# Altium schematic symbol library 常用集成电路.SchLib: 294 symbols (part 2 of 5)
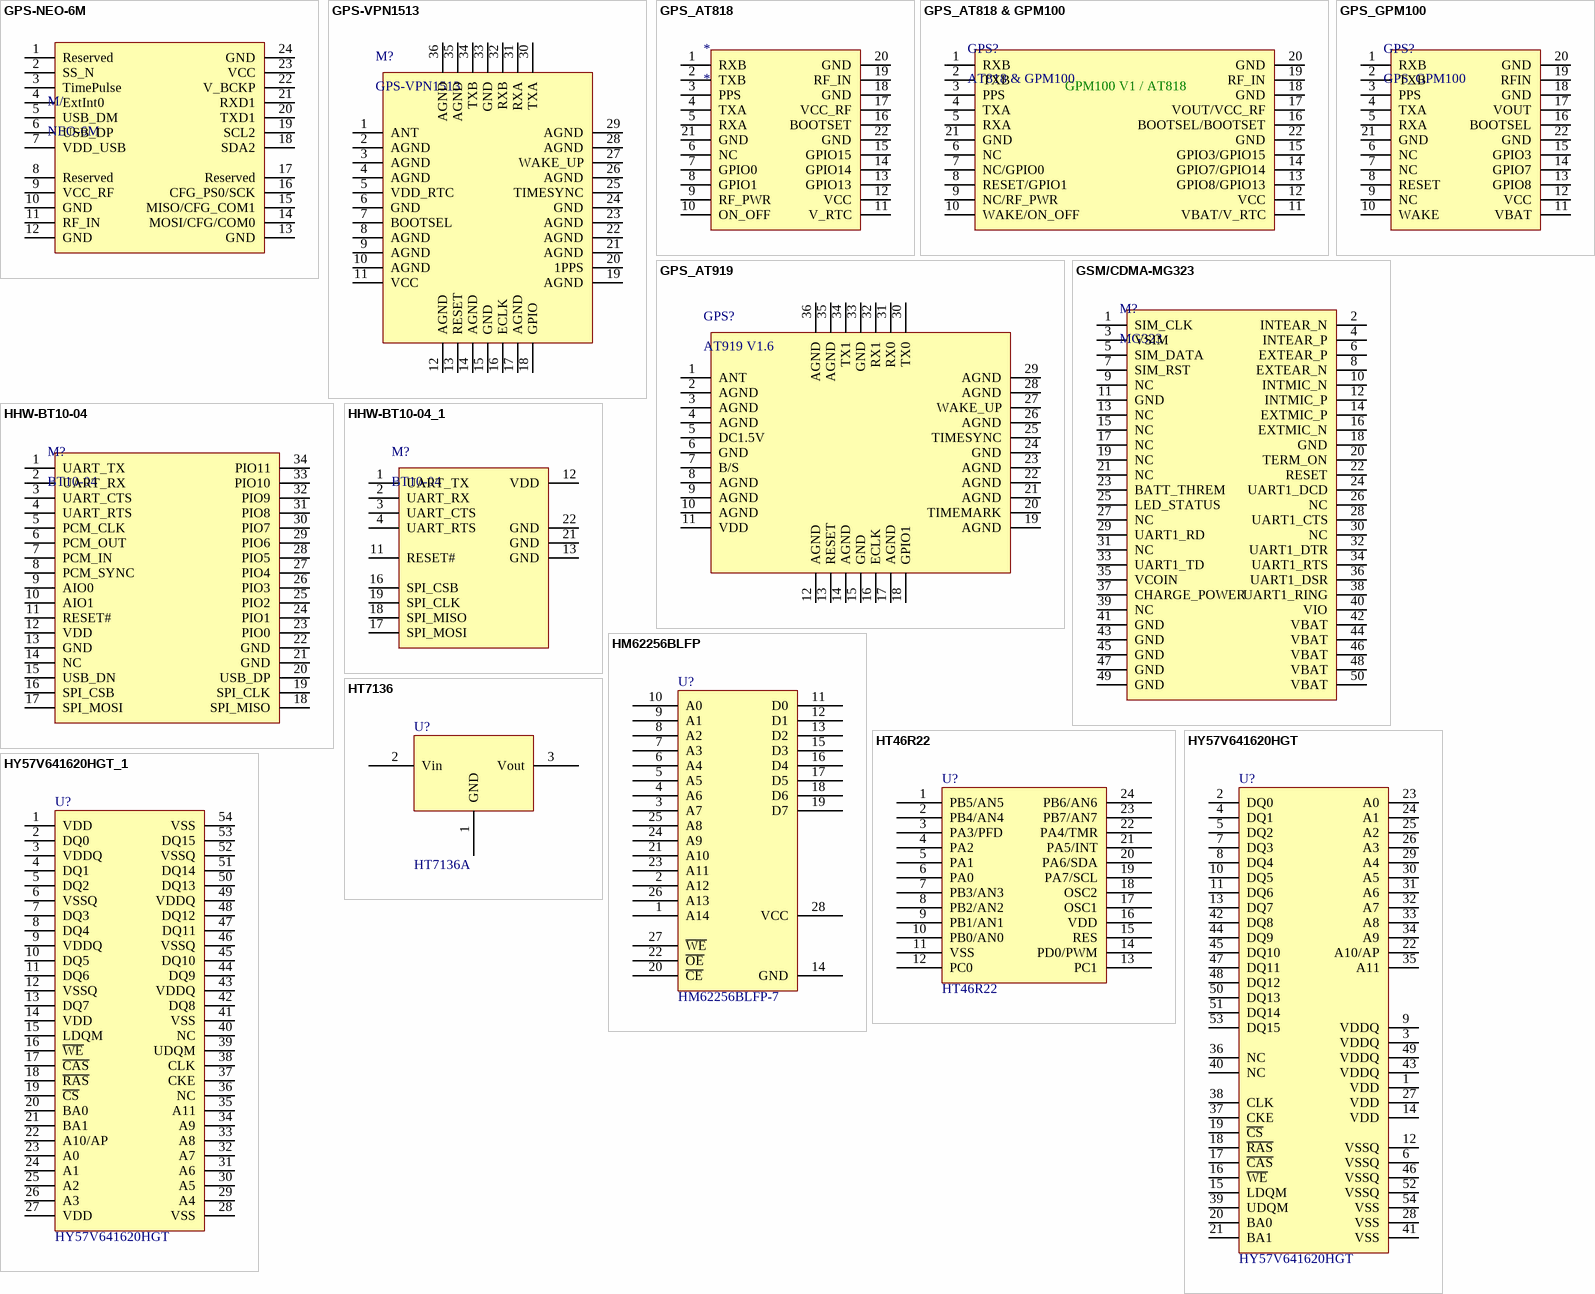
[diagram p39: symbols GPS-NEO-6M to HY57V641620HGT_1]

## HY57V641620HGT
designator U?
footprint SOP80P1176-54AN (Footprint not found)
pins: 1 VDD, 2 DQ0, 3 VDDQ, 4 DQ1, 5 DQ2, 6 VSSQ, 7 DQ3, 8 DQ4, 9 VDDQ, 10 DQ5, 11 DQ6, 12 VSSQ, 13 DQ7, 14 VDD, 15 LDQM, 16 ~{WE}, 17 ~{CAS}, 18 ~{RAS}, 19 ~{CS}, 20 BA0, 21 BA1, 22 A10/AP, 23 A0, 24 A1, 25 A2, 26 A3, 27 VDD, 28 VSS, 29 A4, 30 A5, 31 A6, 32 A7, 33 A8, 34 A9, 35 A11, 36 NC, 37 CKE, 38 CLK, 39 UDQM, 40 NC, 41 VSS, 42 DQ8, 43 VDDQ, 44 DQ9, 45 DQ10, 46 VSSQ, 47 DQ11, 48 DQ12, 49 VDDQ, 50 DQ13, 51 DQ14, 52 VSSQ, 53 DQ15, 54 VSS

## HY57V641620HGT_1
designator U?, comment HY57V641620HGT
footprint SOP80P1176-54AN (Footprint not found)
pins: 1 VDD, 2 DQ0, 3 VDDQ, 4 DQ1, 5 DQ2, 6 VSSQ, 7 DQ3, 8 DQ4, 9 VDDQ, 10 DQ5, 11 DQ6, 12 VSSQ, 13 DQ7, 14 VDD, 15 LDQM, 16 ~{WE}, 17 ~{CAS}, 18 ~{RAS}, 19 ~{CS}, 20 BA0, 21 BA1, 22 A10/AP, 23 A0, 24 A1, 25 A2, 26 A3, 27 VDD, 28 VSS, 29 A4, 30 A5, 31 A6, 32 A7, 33 A8, 34 A9, 35 A11, 36 NC, 37 CKE, 38 CLK, 39 UDQM, 40 NC, 41 VSS, 42 DQ8, 43 VDDQ, 44 DQ9, 45 DQ10, 46 VSSQ, 47 DQ11, 48 DQ12, 49 VDDQ, 50 DQ13, 51 DQ14, 52 VSSQ, 53 DQ15, 54 VSS

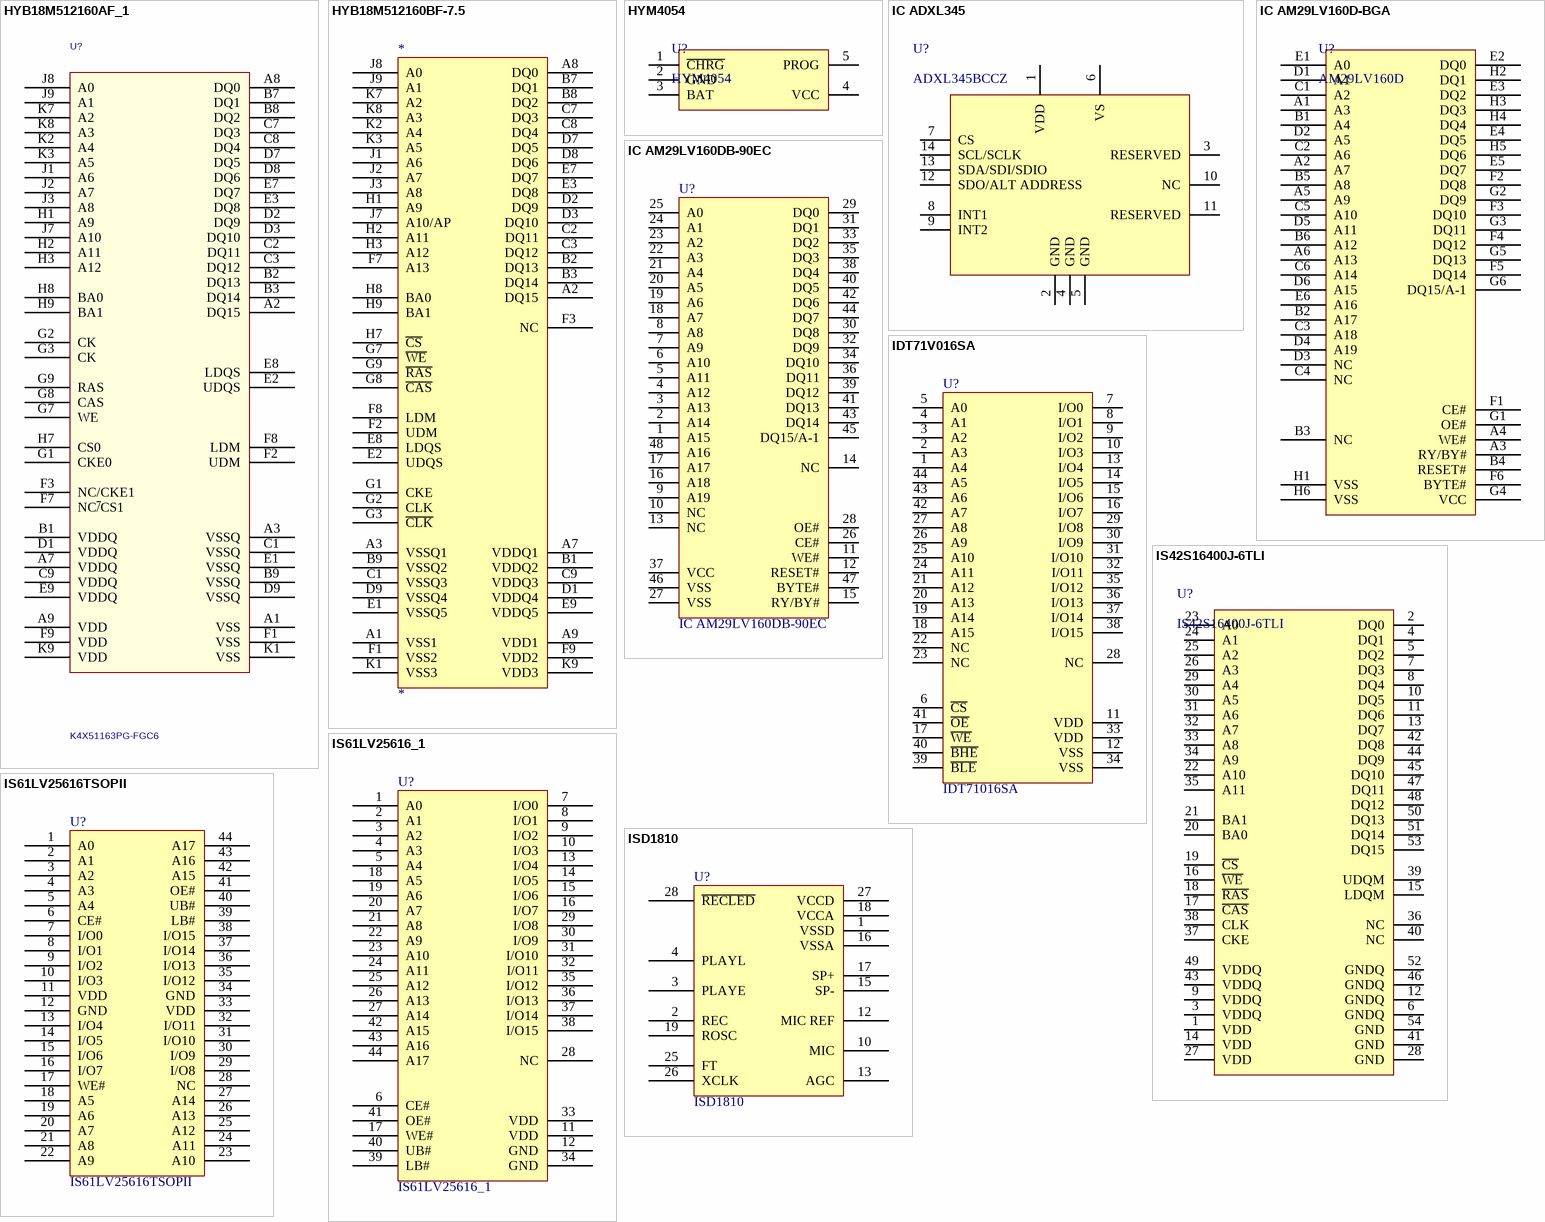
[diagram p8: symbols HYB18M512160AF_1 to ISD1810]

## HYB18M512160AF_1
designator U?, comment K4X51163PG-FGC6
footprint BGA80P11X10-60
pins: A1 VSS, A2 DQ15, A3 VSSQ, A7 VDDQ, A8 DQ0, A9 VDD, B1 VDDQ, B2 DQ13, B3 DQ14, B7 DQ1, B8 DQ2, B9 VSSQ, C1 VSSQ, C2 DQ11, C3 DQ12, C7 DQ3, C8 DQ4, C9 VDDQ, D1 VDDQ, D2 DQ9, D3 DQ10, D7 DQ5, D8 DQ6, D9 VSSQ, E1 VSSQ, E2 UDQS, E3 DQ8, E7 DQ7, E8 LDQS, E9 VDDQ, F1 VSS, F2 UDM, F3 NC/CKE1, F7 NC~{/}CS1, F8 LDM, F9 VDD, G1 CKE0, G2 CK, G3 CK, G7 WE, G8 CAS, G9 RAS, H1 A9, H2 A11, H3 A12, H7 CS0, H8 BA0, H9 BA1, J1 A6, J2 A7, J3 A8, J7 A10, J8 A0, J9 A1, K1 VSS, K2 A4, K3 A5, K7 A2, K8 A3, K9 VDD

## HYB18M512160BF-7.5
designator *
footprint P-VFBGA-60-1
pins: A1 VSS1 (power), A2 DQ15 (power), A3 VSSQ1 (power), A7 VDDQ1 (power), A8 DQ0 (power), A9 VDD1 (power), B1 VDDQ2 (power), B2 DQ13 (power), B3 DQ14 (power), B7 DQ1 (power), B8 DQ2 (power), B9 VSSQ2 (power), C1 VSSQ3 (power), C2 DQ11 (power), C3 DQ12 (power), C7 DQ3 (power), C8 DQ4 (power), C9 VDDQ3 (power), D1 VDDQ4 (power), D2 DQ9 (power), D3 DQ10 (power), D7 DQ5 (power), D8 DQ6 (power), D9 VSSQ4 (power), E1 VSSQ5 (power), E2 UDQS (power), E3 DQ8 (power), E7 DQ7 (power), E8 LDQS (power), E9 VDDQ5 (power), F1 VSS2 (power), F2 UDM (power), F3 NC (power), F7 A13 (power), F8 LDM (power), F9 VDD2 (power), G1 CKE (power), G2 CLK (power), G3 ~{CLK} (power), G7 ~{WE} (power), G8 ~{CAS} (power), G9 ~{RAS} (power), H1 A9 (power), H2 A11 (power), H3 A12 (power), H7 ~{CS} (power), H8 BA0 (power), H9 BA1 (power), J1 A6 (power), J2 A7 (power), J3 A8 (power), J7 A10/AP (power), J8 A0 (power), J9 A1 (power), K1 VSS3 (power), K2 A4 (power), K3 A5 (power), K7 A2 (power), K8 A3 (power), K9 VDD3 (power)

## HYM4054
designator U?
footprint SOT23-5 (SOT-23/SC-74A; 5 Leads; Body 3 x 3 mm, inc. leads (LxW max))
pins: 1 ~{CHRG}, 2 GND, 3 BAT, 4 VCC, 5 PROG

## IC ADXL345
designator U?, comment ADXL345BCCZ
3-Axis, ±2 g/±4 g/±8 g/±16 g  Digital Accelerometer
footprint LGACC-14-1 (Footprint not found)
pins: 1 VDD, 2 GND, 3 RESERVED, 4 GND, 5 GND, 6 VS, 7 CS, 8 INT1, 9 INT2, 10 NC, 11 RESERVED, 12 SDO/ALT ADDRESS, 13 SDA/SDI/SDIO, 14 SCL/SCLK

## IC AM29LV160D-BGA
designator U?, comment AM29LV160D
footprint BGA80P8X9-48
pins: A1 A3, A2 A7, A3 RY/BY#, A4 WE#, A5 A9, A6 A13, B1 A4, B2 A17, B3 NC, B4 RESET#, B5 A8, B6 A12, C1 A2, C2 A6, C3 A18, C4 NC, C5 A10, C6 A14, D1 A1, D2 A5, D3 NC, D4 A19, D5 A11, D6 A15, E1 A0, E2 DQ0, E3 DQ2, E4 DQ5, E5 DQ7, E6 A16, F1 CE#, F2 DQ8, F3 DQ10, F4 DQ12, F5 DQ14, F6 BYTE#, G1 OE#, G2 DQ9, G3 DQ11, G4 VCC, G5 DQ13, G6 DQ15/A-1, H1 VSS, H2 DQ1, H3 DQ3, H4 DQ4, H5 DQ6, H6 VSS

## IC AM29LV160DB-90EC
designator U?
footprint TSSOP50P2000-48AM (Footprint not found)
pins: 1 A15, 2 A14, 3 A13, 4 A12, 5 A11, 6 A10, 7 A9, 8 A8, 9 A19, 10 NC, 11 WE#, 12 RESET#, 13 NC, 14 NC, 15 RY/BY#, 16 A18, 17 A17, 18 A7, 19 A6, 20 A5, 21 A4, 22 A3, 23 A2, 24 A1, 25 A0, 26 CE#, 27 VSS, 28 OE#, 29 DQ0, 30 DQ8, 31 DQ1, 32 DQ9, 33 DQ2, 34 DQ10, 35 DQ3, 36 DQ11, 37 VCC, 38 DQ4, 39 DQ12, 40 DQ5, 41 DQ13, 42 DQ6, 43 DQ14, 44 DQ7, 45 DQ15/A-1, 46 VSS, 47 BYTE#, 48 A16

## IDT71V016SA
designator U?, comment IDT71016SA
footprint SO-G44/P.8
pins: 1 A4, 2 A3, 3 A2, 4 A1, 5 A0, 6 ~{CS}, 7 I/O0, 8 I/O1, 9 I/O2, 10 I/O3, 11 VDD, 12 VSS, 13 I/O4, 14 I/O5, 15 I/O6, 16 I/O7, 17 ~{WE}, 18 A15, 19 A14, 20 A13, 21 A12, 22 NC, 23 NC, 24 A11, 25 A10, 26 A9, 27 A8, 28 NC, 29 I/O8, 30 I/O9, 31 I/O10, 32 I/O11, 33 VDD, 34 VSS, 35 I/O12, 36 I/O13, 37 I/O14, 38 I/O15, 39 ~{BLE}, 40 ~{BHE}, 41 ~{OE}, 42 A7, 43 A6, 44 A5

## IS42S16400J-6TLI
designator U?
64M DRAM
footprint SOP80P1176-54AN (SOP, 54-Leads, Body 22.5x10.16mm, Pitch 0.8mm, IPC Medium Density)
pins: 1 VDD, 2 DQ0, 3 VDDQ, 4 DQ1, 5 DQ2, 6 GNDQ, 7 DQ3, 8 DQ4, 9 VDDQ, 10 DQ5, 11 DQ6, 12 GNDQ, 13 DQ7, 14 VDD, 15 LDQM, 16 ~{WE}, 17 ~{CAS}, 18 ~{RAS}, 19 ~{CS}, 20 BA0, 21 BA1, 22 A10, 23 A0, 24 A1, 25 A2, 26 A3, 27 VDD, 28 GND, 29 A4, 30 A5, 31 A6, 32 A7, 33 A8, 34 A9, 35 A11, 36 NC, 37 CKE, 38 CLK, 39 UDQM, 40 NC, 41 GND, 42 DQ8, 43 VDDQ, 44 DQ9, 45 DQ10, 46 GNDQ, 47 DQ11, 48 DQ12, 49 VDDQ, 50 DQ13, 51 DQ14, 52 GNDQ, 53 DQ15, 54 GND

## IS61LV25616_1
designator U?
256K*16 RAM
footprint SO-G44/P.8
pins: 1 A0, 2 A1, 3 A2, 4 A3, 5 A4, 6 CE#, 7 I/O0, 8 I/O1, 9 I/O2, 10 I/O3, 11 VDD, 12 GND, 13 I/O4, 14 I/O5, 15 I/O6, 16 I/O7, 17 WE#, 18 A5, 19 A6, 20 A7, 21 A8, 22 A9, 23 A10, 24 A11, 25 A12, 26 A13, 27 A14, 28 NC, 29 I/O8, 30 I/O9, 31 I/O10, 32 I/O11, 33 VDD, 34 GND, 35 I/O12, 36 I/O13, 37 I/O14, 38 I/O15, 39 LB#, 40 UB#, 41 OE#, 42 A15, 43 A16, 44 A17

## IS61LV25616TSOPII
designator U?
256K*16 SRAM
footprint SO-G44/P.8
pins: 1 A0, 2 A1, 3 A2, 4 A3, 5 A4, 6 CE#, 7 I/O0, 8 I/O1, 9 I/O2, 10 I/O3, 11 VDD, 12 GND, 13 I/O4, 14 I/O5, 15 I/O6, 16 I/O7, 17 WE#, 18 A5, 19 A6, 20 A7, 21 A8, 22 A9, 23 A10, 24 A11, 25 A12, 26 A13, 27 A14, 28 NC, 29 I/O8, 30 I/O9, 31 I/O10, 32 I/O11, 33 VDD, 34 GND, 35 I/O12, 36 I/O13, 37 I/O14, 38 I/O15, 39 LB#, 40 UB#, 41 OE#, 42 A15, 43 A16, 44 A17

## ISD1810
designator U?
footprint ISD1810 (Footprint not found)
pins: 1 VSSD, 2 REC, 3 PLAYE, 4 PLAYL, 10 MIC, 12 MIC REF, 13 AGC, 15 SP-, 16 VSSA, 17 SP+, 18 VCCA, 19 ROSC, 25 FT, 26 XCLK, 27 VCCD, 28 ~{RECLED}

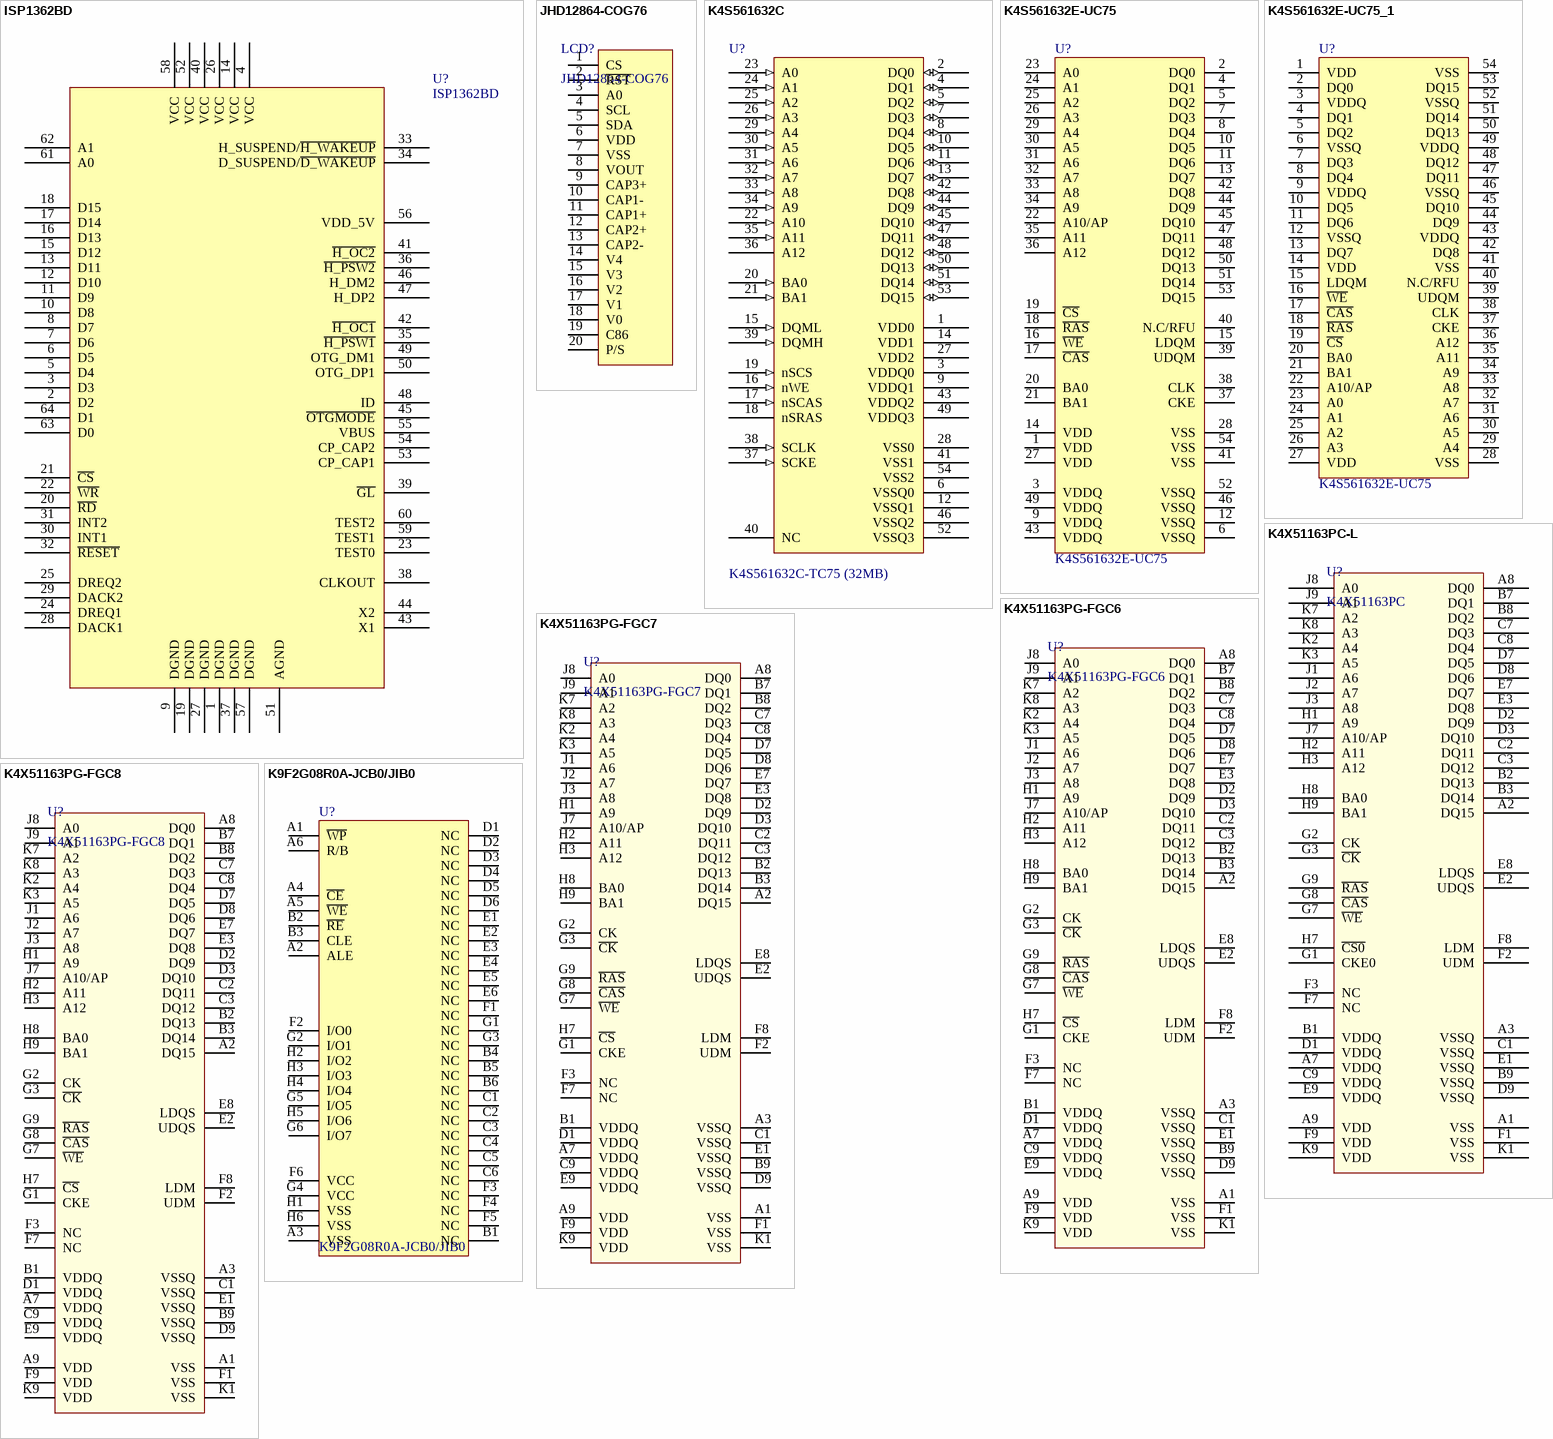
[diagram p9: symbols ISP1362BD to K9F2G08R0A-JCB0/JIB0]

## ISP1362BD
designator U?
footprint TSQFP50P1200X1200-64N (Thin QFP, 64-Leads, Body 10x10mm, Pitch 0.5mm, IPC Medium Density)
pins: 1 DGND, 2 D2, 3 D3, 4 VCC, 5 D4, 6 D5, 7 D6, 8 D7, 9 DGND, 10 D8, 11 D9, 12 D10, 13 D11, 14 VCC, 15 D12, 16 D13, 17 D14, 18 D15, 19 DGND, 20 ~{RD}, 21 ~{CS}, 22 ~{WR}, 23 TEST0, 24 DREQ1, 25 DREQ2, 26 VCC, 27 DGND, 28 DACK1, 29 DACK2, 30 INT1, 31 INT2, 32 ~{RESET}, 33 H_SUSPEND/~{H_WAKEUP}, 34 D_SUSPEND/~{D_WAKEUP}, 35 ~{H_PSW1}, 36 ~{H_PSW2}, 37 DGND, 38 CLKOUT, 39 ~{GL}, 40 VCC, 41 ~{H_OC2}, 42 ~{H_OC1}, 43 X1, 44 X2, 45 ~{OTGMODE}, 46 H_DM2, 47 H_DP2, 48 ID, 49 OTG_DM1, 50 OTG_DP1, 51 AGND, 52 VCC, 53 CP_CAP1, 54 CP_CAP2, 55 VBUS, 56 VDD_5V, 57 DGND, 58 VCC, 59 TEST1, 60 TEST2, 61 A0, 62 A1, 63 D0, 64 D1

## JHD12864-COG76
designator LCD?
footprint FFC/SM0.5-2H20A (Connector; FH12 Series; 20 Position; 0.5mm Spaced Top Contact)
pins: 1 CS, 2 ~{RST}, 3 A0, 4 SCL, 5 SDA, 6 VDD, 7 VSS, 8 VOUT, 9 CAP3+, 10 CAP1-, 11 CAP1+, 12 CAP2+, 13 CAP2-, 14 V4, 15 V3, 16 V2, 17 V1, 18 V0, 19 C86, 20 P/S

## K4S561632C
designator U?, comment K4S561632C-TC75 (32MB)
Samsung SDRAM; Text Field1: 100; Text Field2: 340
footprint SOP80P1176-54AN (SOP, 54-Leads, Body 22.5x10.16mm, Pitch 0.8mm, IPC Medium Density)
pins: 1 VDD0 (power), 2 DQ0 (io), 3 VDDQ0 (power), 4 DQ1 (io), 5 DQ2 (io), 6 VSSQ0 (power), 7 DQ3 (io), 8 DQ4 (io), 9 VDDQ1 (power), 10 DQ5 (io), 11 DQ6 (io), 12 VSSQ1 (power), 13 DQ7 (io), 14 VDD1 (power), 15 DQML (in), 16 nWE (in), 17 nSCAS (in), 18 nSRAS, 19 nSCS (in), 20 BA0 (in), 21 BA1 (in), 22 A10 (in), 23 A0 (in), 24 A1 (in), 25 A2 (in), 26 A3 (in), 27 VDD2 (power), 28 VSS0 (power), 29 A4 (in), 30 A5 (in), 31 A6 (in), 32 A7 (in), 33 A8 (in), 34 A9 (in), 35 A11 (in), 36 A12, 37 SCKE (in), 38 SCLK (in), 39 DQMH (in), 40 NC, 41 VSS1 (power), 42 DQ8 (io), 43 VDDQ2 (power), 44 DQ9 (io), 45 DQ10 (io), 46 VSSQ2 (power), 47 DQ11 (io), 48 DQ12 (io), 49 VDDQ3 (power), 50 DQ13 (io), 51 DQ14 (io), 52 VSSQ3 (power), 53 DQ15 (io), 54 VSS2 (power)

## K4S561632E-UC75
designator U?
footprint SOP80P1176-54AM (SOP, 54-Leads, Body 22.5x10.16mm, Pitch 0.8mm, IPC Low Density)
pins: 1 VDD, 2 DQ0, 3 VDDQ, 4 DQ1, 5 DQ2, 6 VSSQ, 7 DQ3, 8 DQ4, 9 VDDQ, 10 DQ5, 11 DQ6, 12 VSSQ, 13 DQ7, 14 VDD, 15 LDQM, 16 ~{WE}, 17 ~{CAS}, 18 ~{RAS}, 19 ~{CS}, 20 BA0, 21 BA1, 22 A10/AP, 23 A0, 24 A1, 25 A2, 26 A3, 27 VDD, 28 VSS, 29 A4, 30 A5, 31 A6, 32 A7, 33 A8, 34 A9, 35 A11, 36 A12, 37 CKE, 38 CLK, 39 UDQM, 40 N.C/RFU, 41 VSS, 42 DQ8, 43 VDDQ, 44 DQ9, 45 DQ10, 46 VSSQ, 47 DQ11, 48 DQ12, 49 VDDQ, 50 DQ13, 51 DQ14, 52 VSSQ, 53 DQ15, 54 VSS

## K4S561632E-UC75_1
designator U?, comment K4S561632E-UC75
footprint SOP80P1176-54AM (SOP, 54-Leads, Body 22.5x10.16mm, Pitch 0.8mm, IPC Low Density)
pins: 1 VDD, 2 DQ0, 3 VDDQ, 4 DQ1, 5 DQ2, 6 VSSQ, 7 DQ3, 8 DQ4, 9 VDDQ, 10 DQ5, 11 DQ6, 12 VSSQ, 13 DQ7, 14 VDD, 15 LDQM, 16 ~{WE}, 17 ~{CAS}, 18 ~{RAS}, 19 ~{CS}, 20 BA0, 21 BA1, 22 A10/AP, 23 A0, 24 A1, 25 A2, 26 A3, 27 VDD, 28 VSS, 29 A4, 30 A5, 31 A6, 32 A7, 33 A8, 34 A9, 35 A11, 36 A12, 37 CKE, 38 CLK, 39 UDQM, 40 N.C/RFU, 41 VSS, 42 DQ8, 43 VDDQ, 44 DQ9, 45 DQ10, 46 VSSQ, 47 DQ11, 48 DQ12, 49 VDDQ, 50 DQ13, 51 DQ14, 52 VSSQ, 53 DQ15, 54 VSS

## K4X51163PC-L
designator U?, comment K4X51163PC
footprint BGA80P11X10-60
pins: A1 VSS, A2 DQ15, A3 VSSQ, A7 VDDQ, A8 DQ0, A9 VDD, B1 VDDQ, B2 DQ13, B3 DQ14, B7 DQ1, B8 DQ2, B9 VSSQ, C1 VSSQ, C2 DQ11, C3 DQ12, C7 DQ3, C8 DQ4, C9 VDDQ, D1 VDDQ, D2 DQ9, D3 DQ10, D7 DQ5, D8 DQ6, D9 VSSQ, E1 VSSQ, E2 UDQS, E3 DQ8, E7 DQ7, E8 LDQS, E9 VDDQ, F1 VSS, F2 UDM, F3 NC, F7 NC, F8 LDM, F9 VDD, G1 CKE0, G2 CK, G3 ~{CK}, G7 ~{WE}, G8 ~{CAS}, G9 ~{RAS}, H1 A9, H2 A11, H3 A12, H7 ~{CS0}, H8 BA0, H9 BA1, J1 A6, J2 A7, J3 A8, J7 A10/AP, J8 A0, J9 A1, K1 VSS, K2 A4, K3 A5, K7 A2, K8 A3, K9 VDD

## K4X51163PG-FGC6
designator U?
66MHz(CL=3),83MHz(CL=2)
footprint BGA80P8X10-60 (K4X51163PG-FGC6(7)(8))
pins: A1 VSS, A2 DQ15, A3 VSSQ, A7 VDDQ, A8 DQ0, A9 VDD, B1 VDDQ, B2 DQ13, B3 DQ14, B7 DQ1, B8 DQ2, B9 VSSQ, C1 VSSQ, C2 DQ11, C3 DQ12, C7 DQ3, C8 DQ4, C9 VDDQ, D1 VDDQ, D2 DQ9, D3 DQ10, D7 DQ5, D8 DQ6, D9 VSSQ, E1 VSSQ, E2 UDQS, E3 DQ8, E7 DQ7, E8 LDQS, E9 VDDQ, F1 VSS, F2 UDM, F3 NC, F7 NC, F8 LDM, F9 VDD, G1 CKE, G2 CK, G3 ~{CK}, G7 ~{WE}, G8 ~{CAS}, G9 ~{RAS}, H1 A9, H2 A11, H3 A12, H7 ~{CS}, H8 BA0, H9 BA1, J1 A6, J2 A7, J3 A8, J7 A10/AP, J8 A0, J9 A1, K1 VSS, K2 A4, K3 A5, K7 A2, K8 A3, K9 VDD

## K4X51163PG-FGC7
designator U?
185MHz (CL=3)
footprint BGA80P8X10-60 (K4X51163PG-FGC6(7)(8))
pins: A1 VSS, A2 DQ15, A3 VSSQ, A7 VDDQ, A8 DQ0, A9 VDD, B1 VDDQ, B2 DQ13, B3 DQ14, B7 DQ1, B8 DQ2, B9 VSSQ, C1 VSSQ, C2 DQ11, C3 DQ12, C7 DQ3, C8 DQ4, C9 VDDQ, D1 VDDQ, D2 DQ9, D3 DQ10, D7 DQ5, D8 DQ6, D9 VSSQ, E1 VSSQ, E2 UDQS, E3 DQ8, E7 DQ7, E8 LDQS, E9 VDDQ, F1 VSS, F2 UDM, F3 NC, F7 NC, F8 LDM, F9 VDD, G1 CKE, G2 CK, G3 ~{CK}, G7 ~{WE}, G8 ~{CAS}, G9 ~{RAS}, H1 A9, H2 A11, H3 A12, H7 ~{CS}, H8 BA0, H9 BA1, J1 A6, J2 A7, J3 A8, J7 A10/AP, J8 A0, J9 A1, K1 VSS, K2 A4, K3 A5, K7 A2, K8 A3, K9 VDD

## K4X51163PG-FGC8
designator U?
200MHz(CL=3)
footprint BGA80P8X10-60 (K4X51163PG-FGC6(7)(8))
pins: A1 VSS, A2 DQ15, A3 VSSQ, A7 VDDQ, A8 DQ0, A9 VDD, B1 VDDQ, B2 DQ13, B3 DQ14, B7 DQ1, B8 DQ2, B9 VSSQ, C1 VSSQ, C2 DQ11, C3 DQ12, C7 DQ3, C8 DQ4, C9 VDDQ, D1 VDDQ, D2 DQ9, D3 DQ10, D7 DQ5, D8 DQ6, D9 VSSQ, E1 VSSQ, E2 UDQS, E3 DQ8, E7 DQ7, E8 LDQS, E9 VDDQ, F1 VSS, F2 UDM, F3 NC, F7 NC, F8 LDM, F9 VDD, G1 CKE, G2 CK, G3 ~{CK}, G7 ~{WE}, G8 ~{CAS}, G9 ~{RAS}, H1 A9, H2 A11, H3 A12, H7 ~{CS}, H8 BA0, H9 BA1, J1 A6, J2 A7, J3 A8, J7 A10/AP, J8 A0, J9 A1, K1 VSS, K2 A4, K3 A5, K7 A2, K8 A3, K9 VDD

## K9F2G08R0A-JCB0/JIB0
designator U?
footprint BGA80P6x8-L
pins: A1 ~{WP}, A2 ALE, A3 VSS, A4 ~{CE}, A5 ~{WE}, A6 R/B, B1 NC, B2 ~{RE}, B3 CLE, B4 NC, B5 NC, B6 NC, C1 NC, C2 NC, C3 NC, C4 NC, C5 NC, C6 NC, D1 NC, D2 NC, D3 NC, D4 NC, D5 NC, D6 NC, E1 NC, E2 NC, E3 NC, E4 NC, E5 NC, E6 NC, F1 NC, F2 I/O0, F3 NC, F4 NC, F5 NC, F6 VCC, G1 NC, G2 I/O1, G3 NC, G4 VCC, G5 I/O5, G6 I/O7, H1 VSS, H2 I/O2, H3 I/O3, H4 I/O4, H5 I/O6, H6 VSS

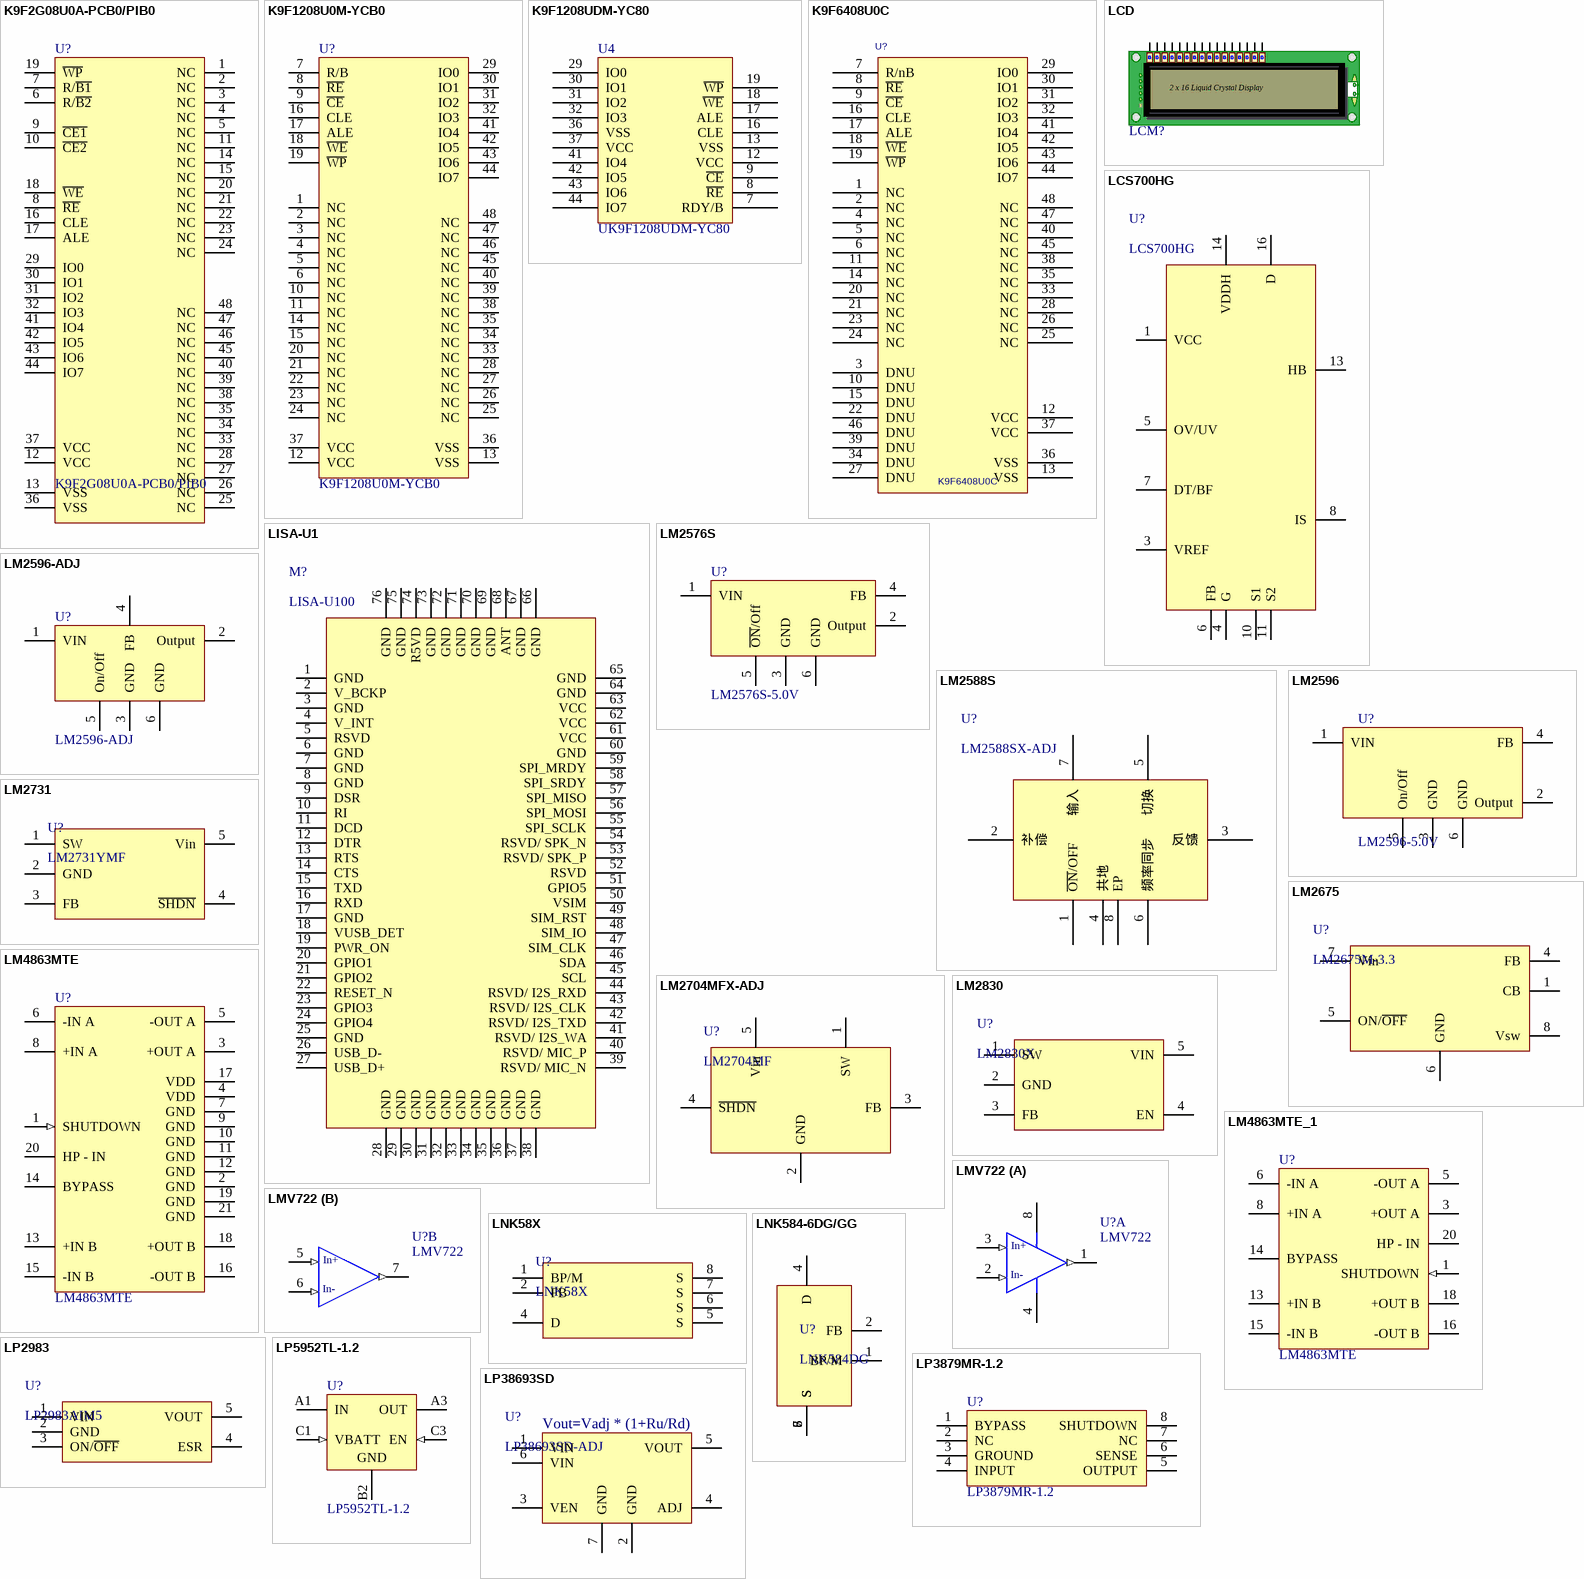
[diagram p10: symbols K9F2G08U0A-PCB0/PIB0 to LP38693SD]

## K9F2G08U0A-PCB0/PIB0
designator U?
footprint TSSOP50P2000-48AM (TSSOP, 48-Leads, Body 12x18.4mm, Pitch 0.5mm, IPC Low Density)
pins: 1 NC, 2 NC, 3 NC, 4 NC, 5 NC, 6 R/~{B2}, 7 R/~{B1}, 8 ~{RE}, 9 ~{CE1}, 10 ~{CE2}, 11 NC, 12 VCC, 13 VSS, 14 NC, 15 NC, 16 CLE, 17 ALE, 18 ~{WE}, 19 ~{WP}, 20 NC, 21 NC, 22 NC, 23 NC, 24 NC, 25 NC, 26 NC, 27 NC, 28 NC, 29 IO0, 30 IO1, 31 IO2, 32 IO3, 33 NC, 34 NC, 35 NC, 36 VSS, 37 VCC, 38 NC, 39 NC, 40 NC, 41 IO4, 42 IO5, 43 IO6, 44 IO7, 45 NC, 46 NC, 47 NC, 48 NC

## K9F1208U0M-YCB0
designator U?
footprint TSSOP50P2000-48AM (TSSOP, 48-Leads, Body 12x18.4mm, Pitch 0.5mm, IPC Low Density)
pins: 1 NC, 2 NC, 3 NC, 4 NC, 5 NC, 6 NC, 7 R/B, 8 ~{RE}, 9 ~{CE}, 10 NC, 11 NC, 12 VCC, 13 VSS, 14 NC, 15 NC, 16 CLE, 17 ALE, 18 ~{WE}, 19 ~{WP}, 20 NC, 21 NC, 22 NC, 23 NC, 24 NC, 25 NC, 26 NC, 27 NC, 28 NC, 29 IO0, 30 IO1, 31 IO2, 32 IO3, 33 NC, 34 NC, 35 NC, 36 VSS, 37 VCC, 38 NC, 39 NC, 40 NC, 41 IO4, 42 IO5, 43 IO6, 44 IO7, 45 NC, 46 NC, 47 NC, 48 NC

## K9F1208UDM-YC80
designator U4, comment UK9F1208UDM-YC80
footprint TSSOP50P2000-48AM (TSSOP, 48-Leads, Body 12x18.4mm, Pitch 0.5mm, IPC Low Density)
pins: 7 RDY/B, 8 ~{RE}, 9 ~{CE}, 12 VCC, 13 VSS, 16 CLE, 17 ALE, 18 ~{WE}, 19 ~{WP}, 29 IO0, 30 IO1, 31 IO2, 32 IO3, 36 VSS, 37 VCC, 41 IO4, 42 IO5, 43 IO6, 44 IO7

## K9F6408U0C
designator U?
NAND Flash
footprint TSSOP50P2000-48AM (TSSOP, 48-Leads, Body 12x18.4mm, Pitch 0.5mm, IPC Low Density)
pins: 1 NC, 2 NC, 3 DNU, 4 NC, 5 NC, 6 NC, 7 R/nB, 8 ~{RE}, 9 ~{CE}, 10 DNU, 11 NC, 12 VCC, 13 VSS, 14 NC, 15 DNU, 16 CLE, 17 ALE, 18 ~{WE}, 19 ~{WP}, 20 NC, 21 NC, 22 DNU, 23 NC, 24 NC, 25 NC, 26 NC, 27 DNU, 28 NC, 29 IO0, 30 IO1, 31 IO2, 32 IO3, 33 NC, 34 DNU, 35 NC, 36 VSS, 37 VCC, 38 NC, 39 DNU, 40 NC, 41 IO4, 42 IO5, 43 IO6, 44 IO7, 45 NC, 46 DNU, 47 NC, 48 NC

## LCD
designator LCM?  (value not drawn)
Liquid Crystal Display; PortComponent: True; Published: 19-Nov-2003; Publisher: Altium Limited
footprint HDR1X16 (Footprint not found)
pins: 1 VCC, 2 GND, 3 VEE, 4 RS, 5 R/W, 6 E, 7 DB0, 8 DB1, 9 DB2, 10 DB3, 11 DB4, 12 DB5, 13 DB6, 14 DB7, 15 LED+, 16 LED-
text: 2 x 16 Liquid Crystal Display

## LCS700HG
designator U?
TFS系列开关电源IC
footprint eSIP-16B (Footprint not found)
pins: 1 VCC, 3 VREF, 4 G, 5 OV/UV, 6 FB, 7 DT/BF, 8 IS, 10 S1, 11 S2, 13 HB, 14 VDDH, 16 D

## LISA-U1
designator M?, comment LISA-U100
ublox LISA-U1系列 3G 模块
footprint LISA-U1 (ublos LISA-U1系列 2G/3G模块)
pins: 1 GND, 2 V_BCKP, 3 GND, 4 V_INT, 5 RSVD, 6 GND, 7 GND, 8 GND, 9 DSR, 10 RI, 11 DCD, 12 DTR, 13 RTS, 14 CTS, 15 TXD, 16 RXD, 17 GND, 18 VUSB_DET, 19 PWR_ON, 20 GPIO1, 21 GPIO2, 22 RESET_N, 23 GPIO3, 24 GPIO4, 25 GND, 26 USB_D-, 27 USB_D+, 28 GND, 29 GND, 30 GND, 31 GND, 32 GND, 33 GND, 34 GND, 35 GND, 36 GND, 37 GND, 38 GND, 39 RSVD/ MIC_N, 40 RSVD/ MIC_P, 41 RSVD/ I2S_WA, 42 RSVD/ I2S_TXD, 43 RSVD/ I2S_CLK, 44 RSVD/ I2S_RXD, 45 SCL, 46 SDA, 47 SIM_CLK, 48 SIM_IO, 49 SIM_RST, 50 VSIM, 51 GPIO5, 52 RSVD, 53 RSVD/ SPK_P, 54 RSVD/ SPK_N, 55 SPI_SCLK, 56 SPI_MOSI, 57 SPI_MISO, 58 SPI_SRDY, 59 SPI_MRDY, 60 GND, 61 VCC, 62 VCC, 63 VCC, 64 GND, 65 GND, 66 GND, 67 GND, 68 ANT, 69 GND, 70 GND, 71 GND, 72 GND, 73 GND, 74 R5VD, 75 GND, 76 GND

## LM2576S
designator U?, comment LM2576S-5.0V
45V Input
footprint TS5B (D2-PAK; 5 Leads; Body 14.4 (inc. leads) x 10.4 mm (LxW max))
footprint TO-263-5 (TO-263封装稳压集成电路)
pins: 1 VIN, 2 Output, 3 GND, 4 FB, 5 ~{ON}/Off, 6 GND

## LM2588S
designator U?, comment LM2588SX-ADJ
带有关断的开关式5A稳压器
footprint TO263-7 (Footprint not found)
pins: 1 ~{ON}/OFF, 2 补偿, 3 反馈, 4 共地, 5 切换, 6 频率同步, 7 输入, 8 EP

## LM2596
designator U?, comment LM2596-5.0V
3A降压稳压器
footprint TS5B (D2-PAK; 5 Leads; Body 14.4 (inc. leads) x 10.4 mm (LxW max))
footprint TO263-5 (TO-263封装稳压集成电路)
pins: 1 VIN, 2 Output, 3 GND, 4 FB, 5 On/Off, 6 GND

## LM2596-ADJ
designator U?
footprint TS5B (D2-PAK; 5 Leads; Body 14.4 (inc. leads) x 10.4 mm (LxW max))
footprint TO263-5 (TO-263封装稳压集成电路)
pins: 1 VIN, 2 Output, 3 GND, 4 FB, 5 On/Off, 6 GND

## LM2675
designator U?, comment LM2675M-3.3
DC/DC稳压IC
footprint SOIC127P600-8AN (SOIC, 8-Leads, Body 4.9x3.9mm, Pitch 1.27mm, IPC Medium Density)
pins: 1 CB, 2 NC hidden, 3 NC hidden, 4 FB, 5 ON/~{OFF}, 6 GND, 7 Vin, 8 Vsw

## LM2704MFX-ADJ
designator U?, comment LM2704MF
TFT LCD High circuit.
footprint SOT23-5 (SOT-23/SC-74A; 5 Leads; Body 3 x 3 mm, inc. leads (LxW max))
pins: 1 SW (power), 2 GND (power), 3 FB (power), 4 ~{SHDN} (power), 5 Vin (power)

## LM2731
designator U?, comment LM2731YMF
升压集成电路
footprint SOT23-5 (SOT-23/SC-74A; 5 Leads; Body 3 x 3 mm, inc. leads (LxW max))
pins: 1 SW "裸焊盘", 2 GND "裸焊盘", 3 FB "裸焊盘", 4 ~{SHDN} "裸焊盘", 5 Vin "裸焊盘"

## LM2830
designator U?, comment LM2830X
AEC-Q100 Grade LM2830 High Frequency 1.0A Load - Step-Down DC-DC Regulator
footprint SOT23-5 (SOT-23/SC-74A; 5 Leads; Body 3 x 3 mm, inc. leads (LxW max))
pins: 1 SW, 2 GND, 3 FB, 4 EN, 5 VIN

## LM4863MTE
designator U?
Audio AMP
footprint TSOP65P640-20BNP (TSOP, 20-Leads, Body 6.5x4.4mm, Pitch 0.65mm, IPC Medium Density)
pins: 1 SHUTDOWN (in), 2 GND (power), 3 +OUT A (power), 4 VDD (power), 5 -OUT A (power), 6 -IN A (power), 7 GND (power), 8 +IN A (power), 9 GND (power), 10 GND (power), 11 GND (power), 12 GND (power), 13 +IN B (power), 14 BYPASS (power), 15 -IN B (power), 16 -OUT B (power), 17 VDD (power), 18 +OUT B (power), 19 GND (power), 20 HP - IN (power), 21 GND (power)

## LM4863MTE_1
designator U?, comment LM4863MTE
Audio AMP
footprint TSOP65P640-20BNP (TSOP, 20-Leads, Body 6.5x4.4mm, Pitch 0.65mm, IPC Medium Density)
pins: 1 SHUTDOWN (in), 2 GND (power) hidden to GND, 3 +OUT A (power), 4 5V (power) hidden to 5V, 5 -OUT A (power), 6 -IN A (power), 7 GND (power) hidden to GND, 8 +IN A (power), 9 GND (power) hidden to GND, 10 GND (power) hidden to GND, 11 GND (power) hidden to GND, 12 GND (power) hidden to GND, 13 +IN B (power), 14 BYPASS (power), 15 -IN B (power), 16 -OUT B (power), 17 5V (power) hidden to 5V, 18 +OUT B (power), 19 GND (power) hidden to GND, 20 HP - IN (power), 21 GND (power) hidden to GND

## LMV722
designator U?
footprint D008_N (8-Pin Small Outline Integrated Circuit 1.27 mm Pitch, IPC Medium Density)
footprint TSOP65P490-8AN (TSOP, 8-Leads, Body 3x3mm, Pitch 0.65mm, IPC Medium Density)
part A pins: 1 OUT A (out), 2 -IN A (in), 3 +IN A (in), 4 V-, 8 V+ (power)
part B pins: 5 +IN B (in), 6 -IN B (in), 7 OUT B (out)
part A text: In+; In-
part B text: In+; In-

## LNK58X
designator U?
开关电源IC
footprint SO-8C
pins: 1 BP/M, 2 FB, 4 D, 5 S, 6 S, 7 S, 8 S

## LNK584-6DG/GG
designator U?, comment LNK584DG
LinkZero-Ax powerint 系列开关电源IC
footprint SO-8C (Footprint not found)
footprint SMD-8C (Footprint not found)
pins: 1 BP/M, 2 FB, 4 D, 5 S, 6 S, 7 S, 8 S

## LP2983
designator U?, comment LP2983AIM5
1.8-5.5V LDO稳压器
footprint SOT23-5 (SOT-23/SC-74A; 5 Leads; Body 3 x 3 mm, inc. leads (LxW max))
pins: 1 VIN, 2 GND, 3 ON/~{OFF}, 4 ESR, 5 VOUT

## LP3879MR-1.2
designator U?
1.2V LDO
footprint SOP127P636-8P (SOP, 8-Leads, Body 6x4.7mm, Pitch 1.27mm, IPC Medium Density)
pins: 1 BYPASS, 2 NC, 3 GROUND, 4 INPUT, 5 OUTPUT, 6 SENSE, 7 NC, 8 SHUTDOWN, 9 GND hidden to GND

## LP5952TL-1.2
designator U?
350mA Dual Rail Linear Regulator; Manufacturer: National Semiconductor; CompType: LDO IC; PackageTopMarking: XV*I 7; Published: 27-Nov-2008; DatasheetVersion: Jun-2008; PackageVersion: revC, Feb-2005; PackageReference: TLA05Z1A; Publisher: Altium Limited; PackageDescription: Thin Micro SMD, 5 Bump (Large), 0.5mm Pitch; PartNumber: LP5952TL-1.2; RoHS: Y; PinCount: 5; DigiKeyPartNumber: LP5952TL-1.2CT-ND; ComponentLink1Description: LP5952 Datasheet; ComponentLink1URL: http://www.national.com/ds/LP/LP5952.pdf; ComponentLink2Description: LP5952 Web Page; ComponentLink2URL: http://www.national.com/pf/LP/LP5952.html; ComponentLink3Description: TLA05Z1A Package Page; ComponentLink3URL: http://www.national.com/packaging/folders/tla05z1a.html
footprint MF05A_N (Footprint not found)
pins: A1 IN (power), A3 OUT (power), B2 GND (power), C1 VBATT (in), C3 EN (in)

## LP38693SD
designator U?, comment LP38693SD-ADJ
具有可调输出的LP38691-ADJ，LP38693-ADJ  500mA 低压降CMOS 线性稳压器
footprint QFN95P3X3-6 (Footprint not found)
pins: 1 VIN, 2 GND, 3 VEN, 4 ADJ, 5 VOUT, 6 VIN, 7 GND
text: Vout=Vadj * (1+Ru/Rd)

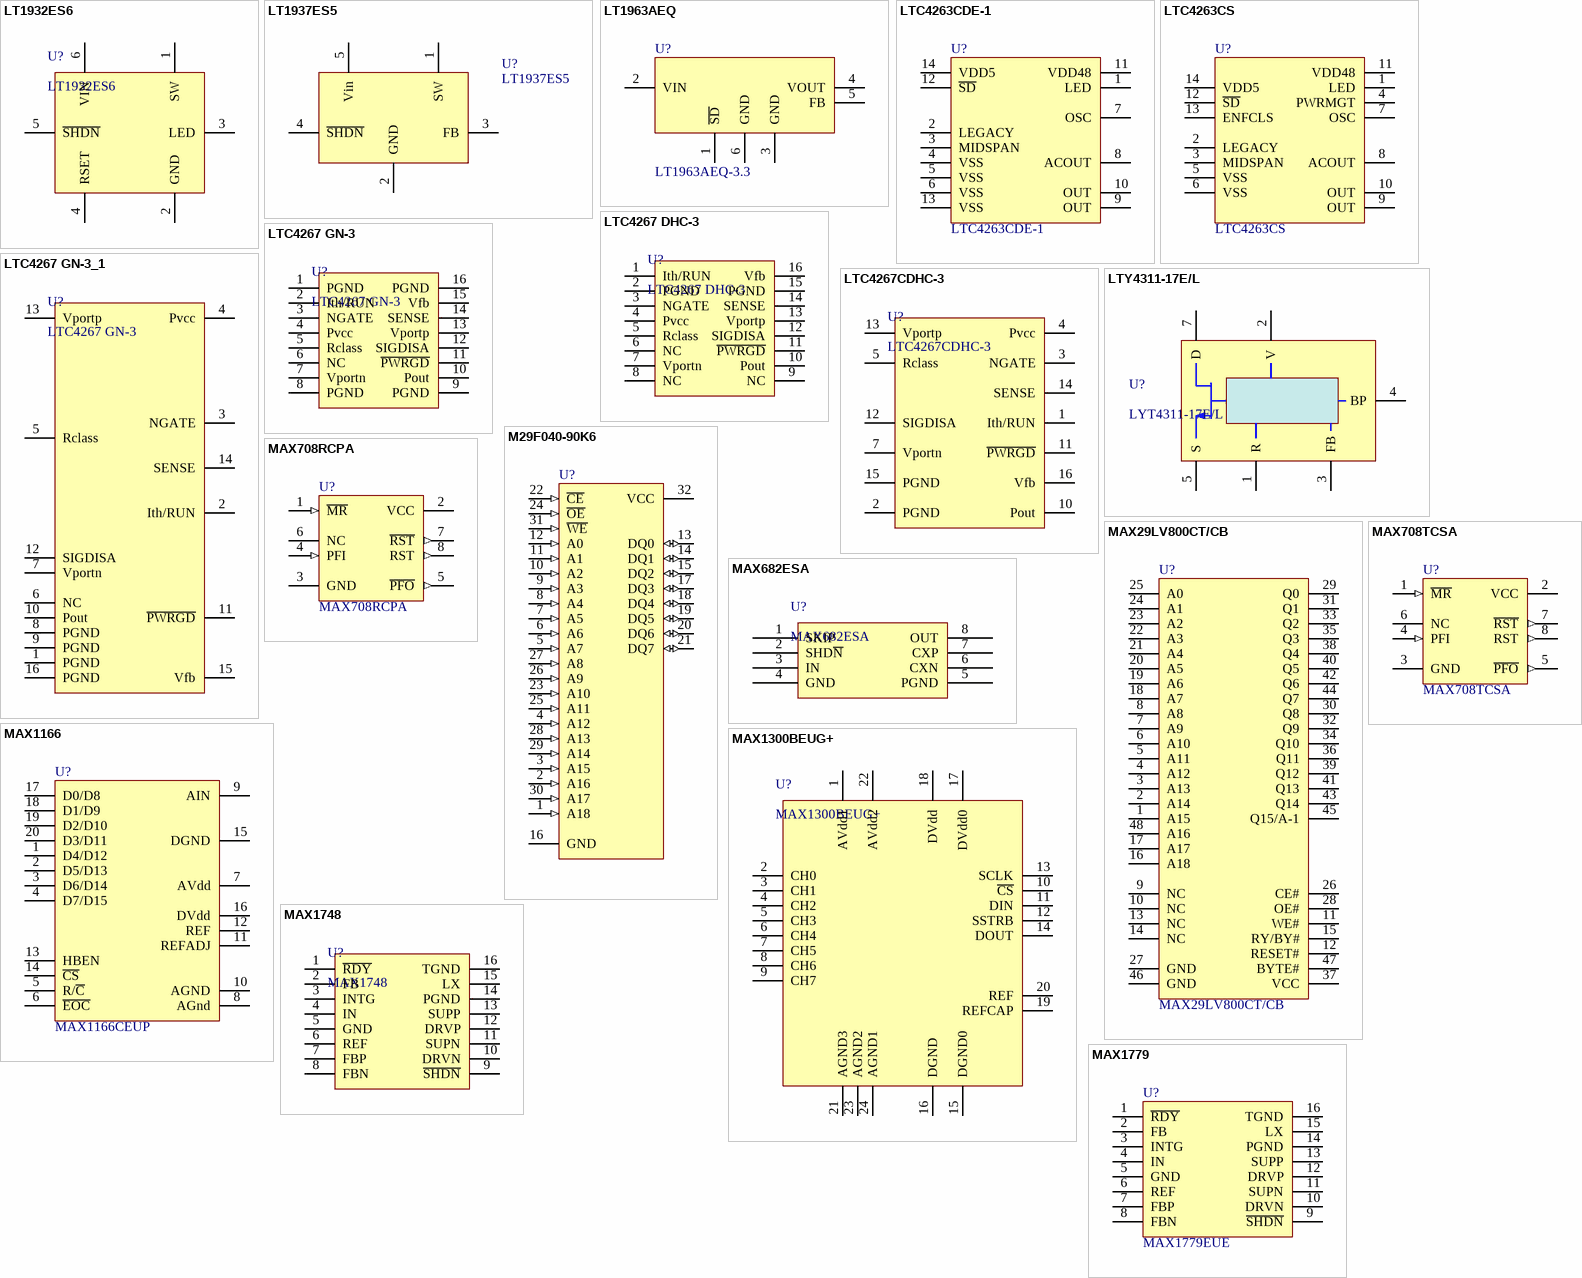
[diagram p11: symbols LT1932ES6 to MAX1779]

## LT1932ES6
designator U?
TFT液晶屏升压IC
footprint SOT23-6 (SOT-457/SC-74; 6 Leads; Body 3 x 3 mm, inc. leads (LxW max))
pins: 1 SW (power), 2 GND (power), 3 LED (power), 4 RSET (power), 5 ~{SHDN} (power), 6 VIN (power)

## LT1937ES5
designator U?
TFT升压IC
footprint SOT23-5AN (SOT23, 5-Leads, Body 2.9x1.6mm, Pitch 0.95mm, Lead Span 2.8mm, IPC Medium Density)
pins: 1 SW (power), 2 GND (power), 3 FB (power), 4 ~{SHDN} (power), 5 Vin (power)

## LT1963AEQ
designator U?, comment LT1963AEQ-3.3
footprint TS5B (D2-PAK; 5 Leads; Body 14.4 (inc. leads) x 10.4 mm (LxW max))
pins: 1 ~{SD} (power), 2 VIN (power), 3 GND (power), 4 VOUT (power), 5 FB (power), 6 GND (power)

## LTC4263CDE-1
designator U?
PSE供电IC
footprint DFN050-14
pins: 1 LED, 2 LEGACY, 3 MIDSPAN, 4 VSS, 5 VSS, 6 VSS, 7 OSC, 8 ACOUT, 9 OUT, 10 OUT, 11 VDD48, 12 ~{SD}, 13 VSS, 14 VDD5, 15 GND hidden to GND

## LTC4263CS
designator U?
PSE供电IC
footprint SO-G14/Y2.2
footprint DFN050-14
pins: 1 LED, 2 LEGACY, 3 MIDSPAN, 4 PWRMGT, 5 VSS, 6 VSS, 7 OSC, 8 ACOUT, 9 OUT, 10 OUT, 11 VDD48, 12 ~{SD}, 13 ENFCLS, 14 VDD5

## LTC4267 DHC-3
designator U?
footprint DFN50P5x3-16
pins: 1 Ith/RUN, 2 PGND, 3 NGATE, 4 Pvcc, 5 Rclass, 6 NC, 7 Vportn, 8 NC, 9 NC, 10 Pout, 11 ~{PWRGD}, 12 SIGDISA, 13 Vportp, 14 SENSE, 15 PGND, 16 Vfb

## LTC4267 GN-3
designator U?
footprint SSOP25P6x5-16 (LTC4267 GN - 16)
pins: 1 PGND, 2 Ith/RUN, 3 NGATE, 4 Pvcc, 5 Rclass, 6 NC, 7 Vportn, 8 PGND, 9 PGND, 10 Pout, 11 ~{PWRGD}, 12 SIGDISA, 13 Vportp, 14 SENSE, 15 Vfb, 16 PGND

## LTC4267 GN-3_1
designator U?, comment LTC4267 GN-3
footprint SSOP25P6x5-16 (LTC4267 GN - 16)
pins: 1 PGND, 2 Ith/RUN, 3 NGATE, 4 Pvcc, 5 Rclass, 6 NC, 7 Vportn, 8 PGND, 9 PGND, 10 Pout, 11 ~{PWRGD}, 12 SIGDISA, 13 Vportp, 14 SENSE, 15 Vfb, 16 PGND

## LTC4267CDHC-3
designator U?
footprint DFN50P5x3-16 (Footprint not found)
pins: 1 Ith/RUN, 2 PGND, 3 NGATE, 4 Pvcc, 5 Rclass, 6 NC hidden, 7 Vportn, 8 NC hidden, 9 NC hidden, 10 Pout, 11 ~{PWRGD}, 12 SIGDISA, 13 Vportp, 14 SENSE, 15 PGND, 16 Vfb

## LTY4311-17E/L
designator U?, comment LYT4311-17E/L
85-132VAC LYTSwitch
footprint eSIP-7C (TOP264-271 封装)
footprint eSIP-7F (Footprint not found)
pins: 1 R, 2 V, 3 FB, 4 BP, 5 S, 7 D

## M29F040-90K6
designator U?
4 Mbit (512Kb x8, Block Erase) Single Supply Flash Memory; Published: 24-Aug-2001; LatestRevisionDate: 06-Jun-2005; LatestRevisionNote: Stylized 3D Model Added.; DatasheetVersion: Nov-1999; PackageVersion: Jun-1998; PackageReference: PLCC32; Publisher: Altium Limited; PackageDescription: Leaded Chip Carrier; 32 Leads; Body 11.5 x 14 mm; Code_JEDEC: MS-016-AE; Code_IPC: PLCC/R-32; ComponentLink1Description: Manufacturer Link; ComponentLink1URL: http://www.st.com/
footprint PLCC32 (Leaded Chip Carrier; 32 Leads; Body 11.5 x 14 mm)
3D model M29F040-PLCC32 (Leaded Chip Carrier; 32 Leads; Body 11.5 x 14 mm)
pins: 1 A18 (in), 2 A16 (in), 3 A15 (in), 4 A12 (in), 5 A7 (in), 6 A6 (in), 7 A5 (in), 8 A4 (in), 9 A3 (in), 10 A2 (in), 11 A1 (in), 12 A0 (in), 13 DQ0 (io), 14 DQ1 (io), 15 DQ2 (io), 16 GND (power), 17 DQ3 (io), 18 DQ4 (io), 19 DQ5 (io), 20 DQ6 (io), 21 DQ7 (io), 22 ~{CE} (in), 23 A10 (in), 24 ~{OE} (in), 25 A11 (in), 26 A9 (in), 27 A8 (in), 28 A13 (in), 29 A14 (in), 30 A17 (in), 31 ~{WE} (in), 32 VCC (power)

## MAX29LV800CT/CB
designator U?
Flash Memory
footprint TSSOP50P2000-48AN (TSSOP, 48-Leads, Body 12x18.4mm, Pitch 0.5mm, IPC Medium Density)
pins: 1 A15, 2 A14, 3 A13, 4 A12, 5 A11, 6 A10, 7 A9, 8 A8, 9 NC, 10 NC, 11 WE#, 12 RESET#, 13 NC, 14 NC, 15 RY/BY#, 16 A18, 17 A17, 18 A7, 19 A6, 20 A5, 21 A4, 22 A3, 23 A2, 24 A1, 25 A0, 26 CE#, 27 GND, 28 OE#, 29 Q0, 30 Q8, 31 Q1, 32 Q9, 33 Q2, 34 Q10, 35 Q3, 36 Q11, 37 VCC, 38 Q4, 39 Q12, 40 Q5, 41 Q13, 42 Q6, 43 Q14, 44 Q7, 45 Q15/A-1, 46 GND, 47 BYTE#, 48 A16

## MAX682ESA
designator U?
MAX682ESA, MAX683ESA
footprint SOP65P640-8L (SOP, 8-Leads, Body 3x4.4mm, Pitch 0.65mm, IPC High Density)
pins: 1 SKIP, 2 SHD~{N}, 3 IN, 4 GND, 5 PGND, 6 CXN, 7 CXP, 8 OUT

## MAX708RCPA
designator U?
+3V Voltage Monitoring, Low-Cost, 礟 Supervisory Circuit; Published: 16-Jan-2001; LatestRevisionDate: 06-Jun-2005; LatestRevisionNote: Stylized 3D Model Added.; DatasheetVersion: Sep-1995; PackageVersion: RevB, 21-0043; PackageReference: PA8; Publisher: Altium Limited; PackageDescription: DIP; 8 Leads; Row Spacing 7.62 mm; Pitch 2.54 mm; Code_JEDEC: MS-001-AB; ComponentLink1Description: Manufacturer Link; ComponentLink1URL: http://www.maxim-ic.com/; ComponentLink2Description: Datasheet; ComponentLink2URL: http://pdfserv.maxim-ic.com/en/ds/MAX706P-MAX708T.pdf
footprint PA8 (DIP; 8 Leads; Row Spacing 7.62 mm; Pitch 2.54 mm)
3D model PA8 (DIP; 8 Leads; Row Spacing 7.62 mm; Pitch 2.54 mm)
pins: 1 ~{MR} (in), 2 VCC (power), 3 GND (power), 4 PFI (in), 5 ~{PFO} (out), 6 NC, 7 ~{RST} (out), 8 RST (out)

## MAX708TCSA
designator U?
+3V Voltage Monitoring, Low-Cost, 礟 Supervisory Circuit; Published: 16-Jan-2001; LatestRevisionDate: 13-Apr-2006; LatestRevisionNote: IPC-7351 Footprint Added.; DatasheetVersion: Sep-1995; PackageReference: NSO8; Publisher: Altium Limited; PackageDescription: 8-Pin Small Outline Integrated Circuit 1.27 mm Pitch; Code_JEDEC: MS-012-AA; Code_IPC: SOIC127P600-8; ComponentLink1Description: Manufacturer Link; ComponentLink1URL: http://www.maxim-ic.com/; ComponentLink2Description: Datasheet; ComponentLink2URL: http://pdfserv.maxim-ic.com/en/ds/MAX706P-MAX708T.pdf
footprint NSO8_N (SOIC, 8-Leads, Body 4.9x3.9mm, Pitch 1.27mm, IPC Medium Density)
footprint NSO8_L (SOIC, 8-Leads, Body 4.9x3.9mm, Pitch 1.27mm, IPC High Density)
3D model NSO8 (8-Pin Small Outline Integrated Circuit 1.27 mm Pitch)
pins: 1 ~{MR} (in), 2 VCC (power), 3 GND (power), 4 PFI (in), 5 ~{PFO} (out), 6 NC, 7 ~{RST} (out), 8 RST (out)

## MAX1166
designator U?, comment MAX1166CEUP
16位ADC
footprint TSOP65P640-20AM (TSOP, 20-Leads, Body 6.5x4.4mm, Pitch 0.65mm, IPC Low Density)
footprint TSOP65P640-20BM (TSOP, 20-Leads, Body 6.5x4.4mm, Pitch 0.65mm, IPC Low Density)
pins: 1 D4/D12, 2 D5/D13, 3 D6/D14, 4 D7/D15, 5 R/~{C}, 6 ~{EOC}, 7 AVdd, 8 AGnd, 9 AIN, 10 AGND, 11 REFADJ, 12 REF, 13 HBEN, 14 ~{CS}, 15 DGND, 16 DVdd, 17 D0/D8, 18 D1/D9, 19 D2/D10, 20 D3/D11

## MAX1300BEUG+
designator U?
8通道16位ADC
footprint TSOP65P640-24AN (TSOP, 24-Leads, Body 7.8x4.4mm, Pitch 0.65mm, IPC Medium Density)
footprint TSOP65P640-24AM (TSOP, 24-Leads, Body 7.8x4.4mm, Pitch 0.65mm, IPC Low Density)
pins: 1 AVdd1, 2 CH0, 3 CH1, 4 CH2, 5 CH3, 6 CH4, 7 CH5, 8 CH6, 9 CH7, 10 ~{CS}, 11 DIN, 12 SSTRB, 13 SCLK, 14 DOUT, 15 DGND0, 16 DGND, 17 DVdd0, 18 DVdd, 19 REFCAP, 20 REF, 21 AGND3, 22 AVdd2, 23 AGND2, 24 AGND1

## MAX1748
designator U?
Triple-Output TFT LCD DC-DC Converter
footprint TSOP65P640-16AN (TSOP, 16-Leads, Body 5x4.4mm, Pitch 0.65mm, IPC Medium Density)
pins: 1 ~{RDY} (power), 2 FB (power), 3 INTG (power), 4 IN (power), 5 GND (power), 6 REF (power), 7 FBP (power), 8 FBN (power), 9 ~{SHDN} (power), 10 DRVN (power), 11 SUPN (power), 12 DRVP (power), 13 SUPP (power), 14 PGND (power), 15 LX (power), 16 TGND (power)

## MAX1779
designator U?, comment MAX1779EUE
footprint TSOP65P640-16AN (TSOP, 16-Leads, Body 5x4.4mm, Pitch 0.65mm, IPC Medium Density)
pins: 1 ~{RDY}, 2 FB, 3 INTG, 4 IN, 5 GND, 6 REF, 7 FBP, 8 FBN, 9 ~{SHDN}, 10 DRVN, 11 SUPN, 12 DRVP, 13 SUPP, 14 PGND, 15 LX, 16 TGND

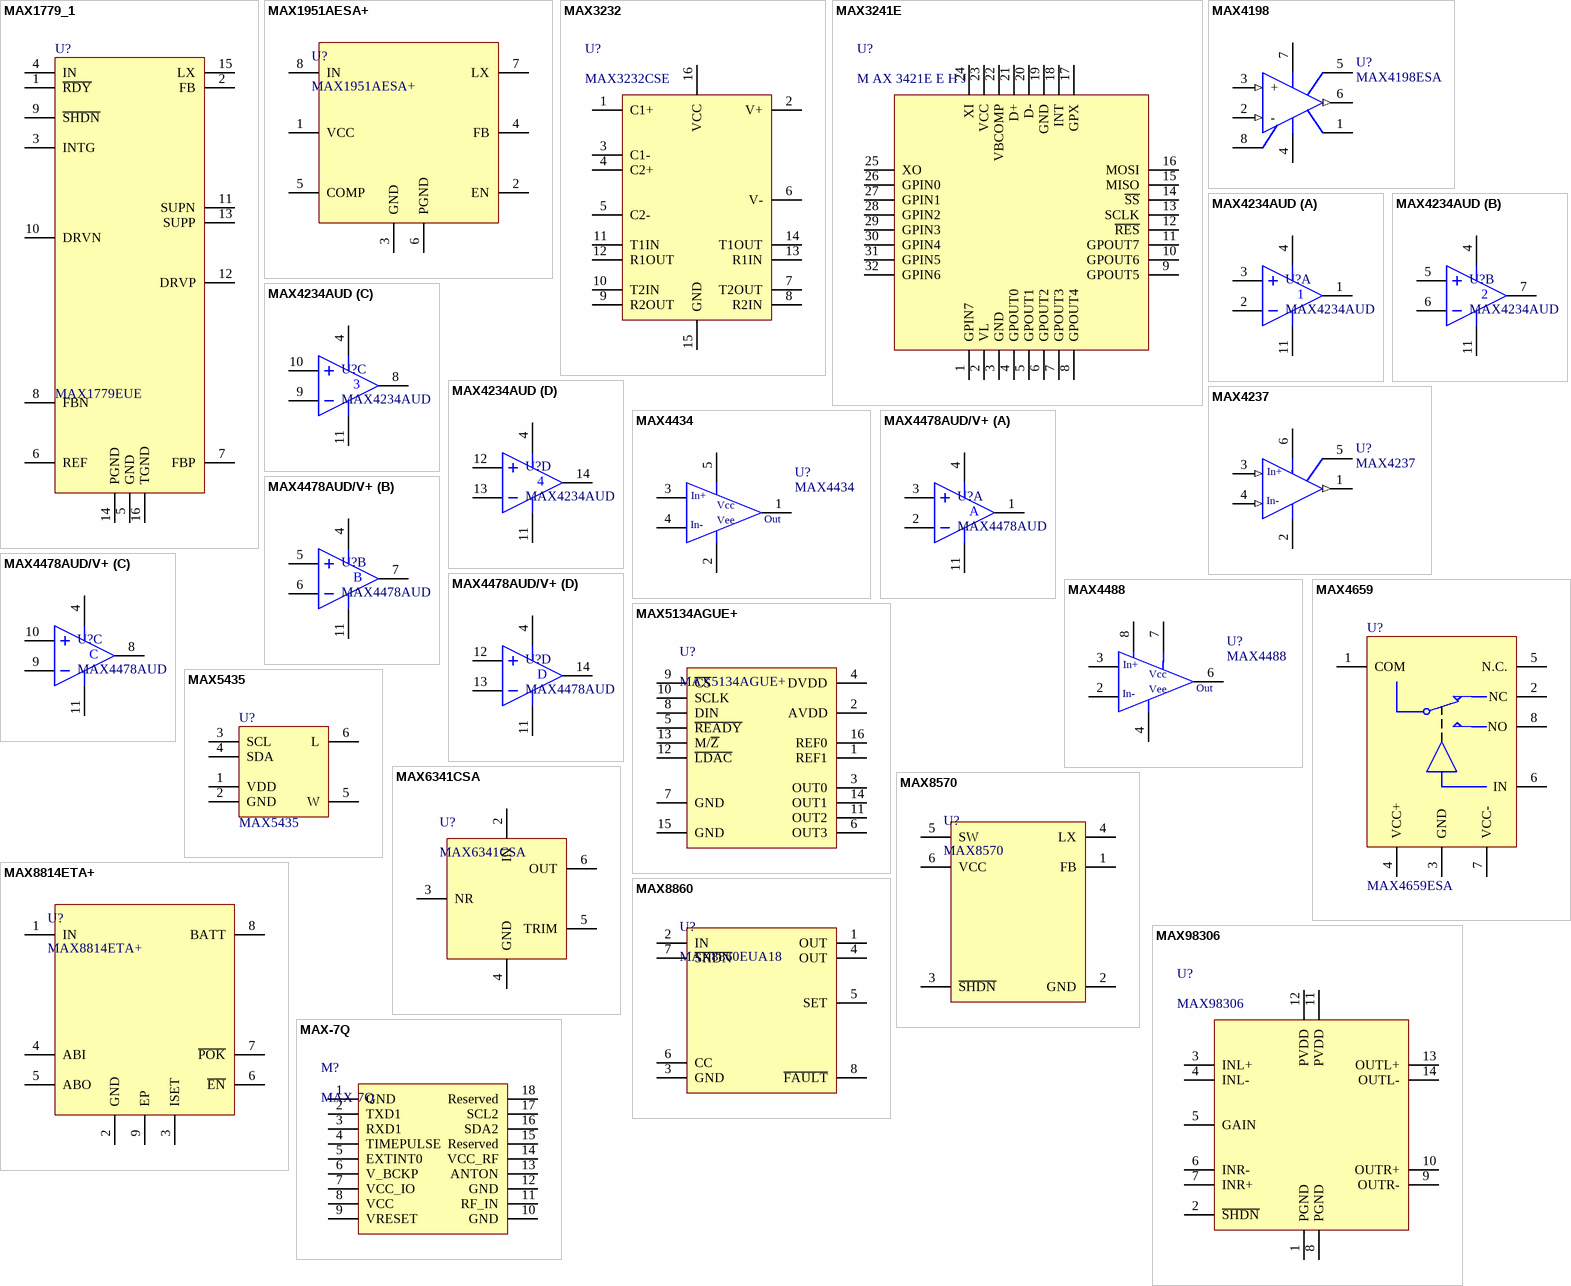
[diagram p12: symbols MAX1779_1 to MAX-7Q]

## MAX1779_1
designator U?, comment MAX1779EUE
Low-Power Triple-Output TFT LCD DC-DC  Converter
footprint TSOP65P640-16AN (TSOP, 16-Leads, Body 5x4.4mm, Pitch 0.65mm, IPC Medium Density)
pins: 1 ~{RDY}, 2 FB, 3 INTG, 4 IN, 5 GND, 6 REF, 7 FBP, 8 FBN, 9 ~{SHDN}, 10 DRVN, 11 SUPN, 12 DRVP, 13 SUPP, 14 PGND, 15 LX, 16 TGND

## MAX1951AESA+
designator U?
开关型降压稳压器
footprint SOIC127P600-8AN (SOIC, 8-Leads, Body 4.9x3.9mm, Pitch 1.27mm, IPC Medium Density)
pins: 1 VCC, 2 EN, 3 GND, 4 FB, 5 COMP, 6 PGND, 7 LX, 8 IN

## MAX3232
designator U?, comment MAX3232CSE
RS232
footprint SOIC127P600-16N (SOIC, 16-Leads, Body 9.9x3.9mm, Pitch 1.27mm, IPC Medium Density)
pins: 1 C1+, 2 V+, 3 C1-, 4 C2+, 5 C2-, 6 V-, 7 T2OUT, 8 R2IN, 9 R2OUT, 10 T2IN, 11 T1IN, 12 R1OUT, 13 R1IN, 14 T1OUT, 15 GND, 16 VCC

## MAX3241E
designator U?, comment M AX 3421E E H J
USB Peripheral Controller  with SPI Interface
footprint TSQFP50P700X700-32L (Thin QFP, 32-Leads, Body 5x5mm, Pitch 0.5mm, IPC High Density)
pins: 1 GPIN7, 2 VL, 3 GND, 4 GPOUT0, 5 GPOUT1, 6 GPOUT2, 7 GPOUT3, 8 GPOUT4, 9 GPOUT5, 10 GPOUT6, 11 GPOUT7, 12 ~{RES}, 13 SCLK, 14 ~{SS}, 15 MISO, 16 MOSI, 17 GPX, 18 INT, 19 GND, 20 D-, 21 D+, 22 VBCOMP, 23 VCC, 24 XI, 25 XO, 26 GPIN0, 27 GPIN1, 28 GPIN2, 29 GPIN3, 30 GPIN4, 31 GPIN5, 32 GPIN6

## MAX4198
designator U?, comment MAX4198ESA
footprint NSO8_N (8-Pin Small Outline Integrated Circuit 1.27 mm Pitch, IPC Medium Density)
footprint NSO8_M (8-Pin Small Outline Integrated Circuit 1.27 mm Pitch, IPC Low Density)
footprint NSO8_L (8-Pin Small Outline Integrated Circuit 1.27 mm Pitch, IPC High Density)
pins: 1 REF, 2 - (in), 3 + (in), 4 VEE, 5 FB, 6 OUT (out), 7 VCC, 8 ~{SHDN}

## MAX4234AUD
designator U?
高输出驱动运算放大器
footprint TSOP65P640-14AM (TSOP, 14-Leads, Body 5x4.4mm, Pitch 0.65mm, IPC Low Density)
footprint TSOP65P640-14AN (TSOP, 14-Leads, Body 5x4.4mm, Pitch 0.65mm, IPC Medium Density)
part A pins: 1 OUT1, 2 IN1-, 3 IN1+, 4 VDD, 11 VSS
part B pins: 4 VDD, 5 IN2+, 6 IN2-, 7 OUT2, 11 VSS
part C pins: 4 VDD, 8 OUT3, 9 IN3-, 10 IN3+, 11 VSS
part D pins: 4 VDD, 11 VSS, 12 IN4+, 13 IN4-, 14 OUT4

## MAX4237
designator U?
footprint SOT23-6 (SOT-457/SC-74; 6 Leads; Body 3 x 3 mm, inc. leads (LxW max))
pins: 1    O (out), 2 VEE, 3    + (in), 4     - (in), 5 SHDN, 6 VCC (power)
text: In+; In-

## MAX4434
designator U?
footprint SO-G5/P.95 (SOT-23/SC-74A; 5 Leads; Body 3.1 x 3 mm, inc. leads (LxW max))
pins: 1    O, 2 VEE, 3    +, 4     -, 5 VCC (power)
text: In+; Vcc; Vee; Out; In-

## MAX4478AUD/V+
designator U?, comment MAX4478AUD
单双电源4运算放大器
footprint TSOP65P640-14AM (TSOP, 14-Leads, Body 5x4.4mm, Pitch 0.65mm, IPC Low Density)
footprint TSOP65P640-14AN (TSOP, 14-Leads, Body 5x4.4mm, Pitch 0.65mm, IPC Medium Density)
part A pins: 1 OUTA, 2 INA-, 3 INA+, 4 VDD, 11 VSS
part B pins: 4 VDD, 5 INB+, 6 INB-, 7 OUTB, 11 VSS
part C pins: 4 VDD, 8 OUTC, 9 INC-, 10 INC+, 11 VSS
part D pins: 4 VDD, 11 VSS, 12 IND+, 13 IND-, 14 OUTD
part A text: A
part B text: B
part C text: C
part D text: D

## MAX4488
designator U?
footprint TSSO3x6-G8/Z7.1 (Shrink Small Outline; 8 Leads; Body Width 4.4 mm; Pitch 0.65 mm)
pins: 2     -, 3    +, 4 VEE, 6    O, 7 Vdd (power), 8 ~{SHDN}
text: In+; Vcc; Vee; Out; In-

## MAX4659
designator U?, comment MAX4659ESA
footprint TSSO3x6-G8/Z7.1 (Shrink Small Outline; 8 Leads; Body Width 4.4 mm; Pitch 0.65 mm)
pins: 1 COM, 2 NC, 3 GND hidden, 3 GND, 4 VCC+ hidden, 4 VCC+, 5 N.C. hidden, 5 N.C., 6 IN, 7 VCC- hidden, 7 VCC-, 8 NO

## MAX5134AGUE+
designator U?
4通道16位DAC
footprint TSOP65P640-16AN (TSOP, 16-Leads, Body 5x4.4mm, Pitch 0.65mm, IPC Medium Density)
footprint TSOP65P640-16AM (TSOP, 16-Leads, Body 5x4.4mm, Pitch 0.65mm, IPC Low Density)
pins: 1 REF1, 2 AVDD, 3 OUT0, 4 DVDD, 5 ~{READY}, 6 OUT3, 7 GND, 8 DIN, 9 ~{CS}, 10 SCLK, 11 OUT2, 12 ~{LDAC}, 13 M/~{Z}, 14 OUT1, 15 GND, 16 REF0

## MAX5435
designator U?
footprint SO-G6/E2.4 (Small Outline; 6 Leads; Body 3.6 x 3.6 mm, inc. leads (LxW max))
pins: 1 VDD, 2 GND, 3 SCL, 4 SDA, 5 W, 6 L

## MAX6341CSA
designator U?
电压基准
footprint SOIC127P600-8CN (SOIC, 8-Leads, Body 4.9x3.9mm, Pitch 1.27mm, IPC Medium Density)
pins: 2 IN, 3 NR, 4 GND, 5 TRIM, 6 OUT

## MAX8570
designator U?
TFT back light MAX8570. MAX8571, MAX8574.
footprint SOT23-6 (SOT-457/SC-74; 6 Leads; Body 3 x 3 mm, inc. leads (LxW max))
pins: 1 FB (power), 2 GND (power), 3 ~{SHDN} (power), 4 LX (power), 5 SW (power), 6 VCC (power)

## MAX8814ETA+
designator U?
手机电池充电IC
footprint TDFN50P20X20-9 (MAX8814封装)
pins: 1 IN, 2 GND, 3 ISET, 4 ABI, 5 ABO, 6 ~{EN}, 7 ~{POK}, 8 BATT, 9 EP

## MAX8860
designator U?, comment MAX8860EUA18
电源管理芯片
footprint TSOP65P490-8AN (TSOP, 8-Leads, Body 3x3mm, Pitch 0.65mm, IPC Medium Density)
pins: 1 OUT, 2 IN, 3 GND, 4 OUT, 5 SET, 6 CC, 7 ~{SHDN}, 8 ~{FAULT}

## MAX98306
designator U?
D类双声道功放
pins: 1 PGND, 2 ~{SHDN}, 3 INL+, 4 INL-, 5 GAIN, 6 INR-, 7 INR+, 8 PGND, 9 OUTR-, 10 OUTR+, 11 PVDD, 12 PVDD, 13 OUTL+, 14 OUTL-

## MAX-7Q
designator M?
ublox GPS模块
footprint MAX-7Q (Footprint not found)
pins: 1 GND, 2 TXD1, 3 RXD1, 4 TIMEPULSE, 5 EXTINT0, 6 V_BCKP, 7 VCC_IO, 8 VCC, 9 VRESET, 10 GND, 11 RF_IN, 12 GND, 13 ANTON, 14 VCC_RF, 15 Reserved, 16 SDA2, 17 SCL2, 18 Reserved

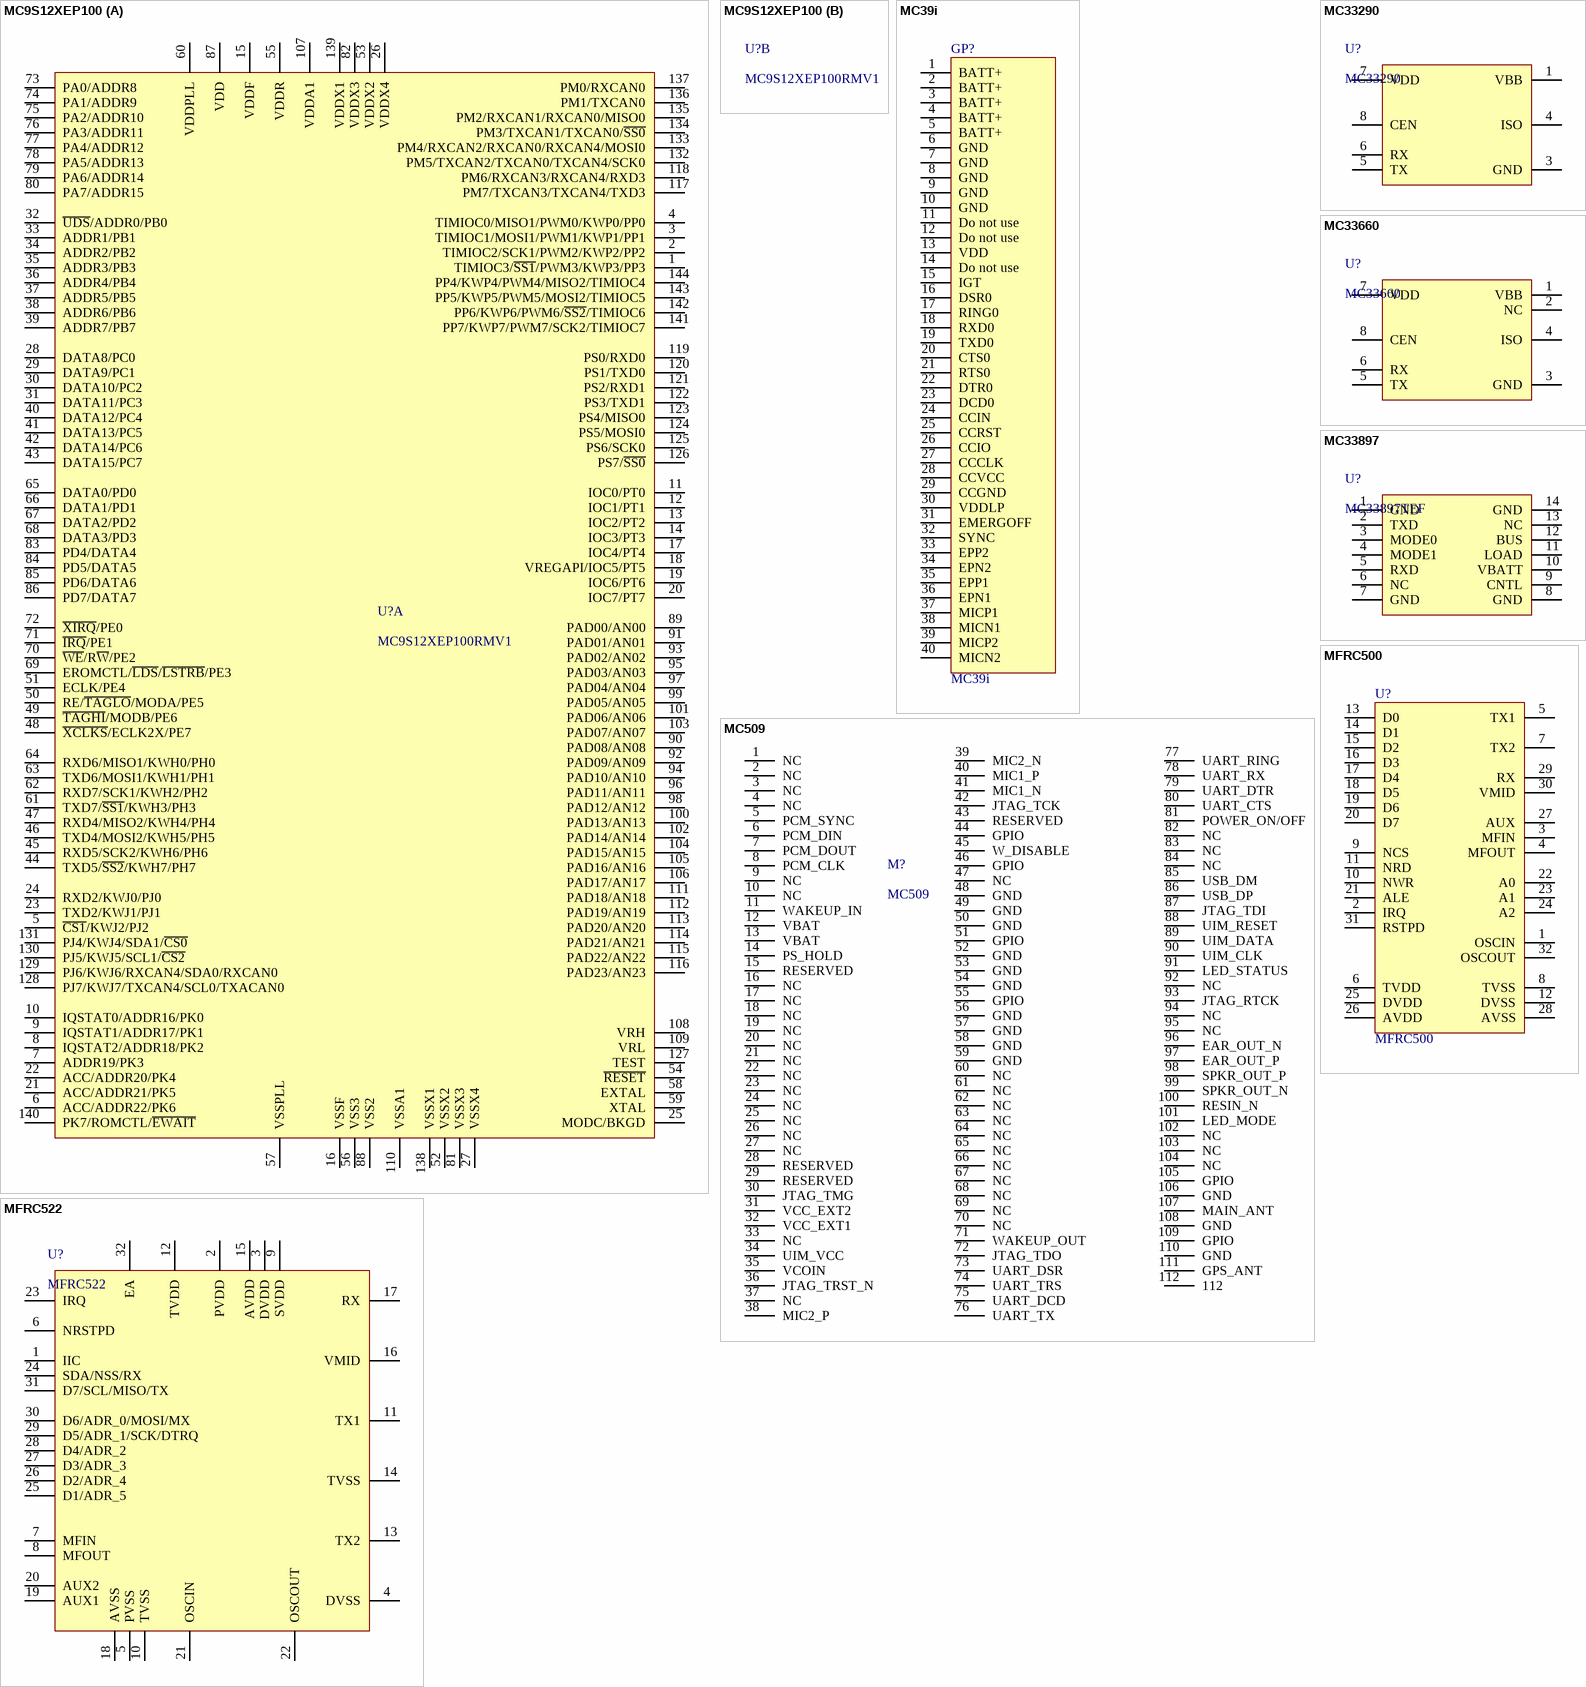
[diagram p13: symbols MC9S12XEP100 to MFRC522]

## MC9S12XEP100
designator U?, comment MC9S12XEP100RMV1
HCS12X  Microcontrollers
footprint SQFP50P2200X2200-144L (Shrink QFP, 144-Leads, Body 20x20mm, Pitch 0.5mm, IPC High Density)
part A pins: 1 TIMIOC3/~{SS1}/PWM3/KWP3/PP3, 2 TIMIOC2/SCK1/PWM2/KWP2/PP2, 3 TIMIOC1/MOSI1/PWM1/KWP1/PP1, 4 TIMIOC0/MISO1/PWM0/KWP0/PP0, 5 ~{CS1}/KWJ2/PJ2, 6 ACC/ADDR22/PK6, 7 ADDR19/PK3, 8 IQSTAT2/ADDR18/PK2, 9 IQSTAT1/ADDR17/PK1, 10 IQSTAT0/ADDR16/PK0, 11 IOC0/PT0, 12 IOC1/PT1, 13 IOC2/PT2, 14 IOC3/PT3, 15 VDDF, 16 VSSF, 17 IOC4/PT4, 18 VREGAPI/IOC5/PT5, 19 IOC6/PT6, 20 IOC7/PT7, 21 ACC/ADDR21/PK5, 22 ACC/ADDR20/PK4, 23 TXD2/KWJ1/PJ1, 24 RXD2/KWJ0/PJ0, 25 MODC/BKGD, 26 VDDX4, 27 VSSX4, 28 DATA8/PC0, 29 DATA9/PC1, 30 DATA10/PC2, 31 DATA11/PC3, 32 ~{UDS}/ADDR0/PB0, 33 ADDR1/PB1, 34 ADDR2/PB2, 35 ADDR3/PB3, 36 ADDR4/PB4, 37 ADDR5/PB5, 38 ADDR6/PB6, 39 ADDR7/PB7, 40 DATA12/PC4, 41 DATA13/PC5, 42 DATA14/PC6, 43 DATA15/PC7, 44 TXD5/~{SS2}/KWH7/PH7, 45 RXD5/SCK2/KWH6/PH6, 46 TXD4/MOSI2/KWH5/PH5, 47 RXD4/MISO2/KWH4/PH4, 48 ~{XCLKS}/ECLK2X/PE7, 49 ~{TAGHI}/MODB/PE6, 50 RE/~{TAGLO}/MODA/PE5, 51 ECLK/PE4, 52 VSSX2, 53 VDDX2, 54 ~{RESET}, 55 VDDR, 56 VSS3, 57 VSSPLL, 58 EXTAL, 59 XTAL, 60 VDDPLL, 61 TXD7/~{SS1}/KWH3/PH3, 62 RXD7/SCK1/KWH2/PH2, 63 TXD6/MOSI1/KWH1/PH1, 64 RXD6/MISO1/KWH0/PH0, 65 DATA0/PD0, 66 DATA1/PD1, 67 DATA2/PD2, 68 DATA3/PD3, 69 EROMCTL/~{LDS}/~{LSTRB}/PE3, 70 ~{WE}/R~{W}/PE2, 71 ~{IRQ}/PE1, 72 ~{XIRQ}/PE0, 73 PA0/ADDR8, 74 PA1/ADDR9, 75 PA2/ADDR10, 76 PA3/ADDR11, 77 PA4/ADDR12, 78 PA5/ADDR13, 79 PA6/ADDR14, 80 PA7/ADDR15, 81 VSSX3, 82 VDDX3, 83 PD4/DATA4, 84 PD5/DATA5, 85 PD6/DATA6, 86 PD7/DATA7, 87 VDD, 88 VSS2, 89 PAD00/AN00, 90 PAD08/AN08, 91 PAD01/AN01, 92 PAD09/AN09, 93 PAD02/AN02, 94 PAD10/AN10, 95 PAD03/AN03, 96 PAD11/AN11, 97 PAD04/AN04, 98 PAD12/AN12, 99 PAD05/AN05, 100 PAD13/AN13, 101 PAD06/AN06, 102 PAD14/AN14, 103 PAD07/AN07, 104 PAD15/AN15, 105 PAD16/AN16, 106 PAD17/AN17, 107 VDDA1, 108 VRH, 109 VRL, 110 VSSA1, 111 PAD18/AN18, 112 PAD19/AN19, 113 PAD20/AN20, 114 PAD21/AN21, 115 PAD22/AN22, 116 PAD23/AN23, 117 PM7/TXCAN3/TXCAN4/TXD3, 118 PM6/RXCAN3/RXCAN4/RXD3, 119 PS0/RXD0, 120 PS1/TXD0, 121 PS2/RXD1, 122 PS3/TXD1, 123 PS4/MISO0, 124 PS5/MOSI0, 125 PS6/SCK0, 126 PS7/~{SS0}, 127 TEST, 128 PJ7/KWJ7/TXCAN4/SCL0/TXACAN0, 129 PJ6/KWJ6/RXCAN4/SDA0/RXCAN0, 130 PJ5/KWJ5/SCL1/~{CS2}, 131 PJ4/KWJ4/SDA1/~{CS0}, 132 PM5/TXCAN2/TXCAN0/TXCAN4/SCK0, 133 PM4/RXCAN2/RXCAN0/RXCAN4/MOSI0, 134 PM3/TXCAN1/TXCAN0/~{SS0}, 135 PM2/RXCAN1/RXCAN0/MISO0, 136 PM1/TXCAN0, 137 PM0/RXCAN0, 138 VSSX1, 139 VDDX1, 140 PK7/ROMCTL/~{EWAIT}, 141 PP7/KWP7/PWM7/SCK2/TIMIOC7, 142 PP6/KWP6/PWM6/~{SS2}/TIMIOC6, 143 PP5/KWP5/PWM5/MOSI2/TIMIOC5, 144 PP4/KWP4/PWM4/MISO2/TIMIOC4

## MC39i
designator GP?
GSM/GPRS MODEL
footprint FFC/SM0.5-2H40A (Connector; FH12 Series; 40 Position; 0.5mm Spaced Top Contact)
footprint FFC/SM0.5-2H40 (Connector; FH12 Series; 40 Position; 0.5mm Spaced Bottom Contact)
pins: 1 BATT+, 2 BATT+, 3 BATT+, 4 BATT+, 5 BATT+, 6 GND, 7 GND, 8 GND, 9 GND, 10 GND, 11 Do not use, 12 Do not use, 13 VDD, 14 Do not use, 15 IGT, 16 DSR0, 17 RING0, 18 RXD0, 19 TXD0, 20 CTS0, 21 RTS0, 22 DTR0, 23 DCD0, 24 CCIN, 25 CCRST, 26 CCIO, 27 CCCLK, 28 CCVCC, 29 CCGND, 30 VDDLP, 31 EMERGOFF, 32 SYNC, 33 EPP2, 34 EPN2, 35 EPP1, 36 EPN1, 37 MICP1, 38 MICN1, 39 MICP2, 40 MICN2

## MC509
designator M?
华为3G CDMA模块
footprint MC509 (Footprint not found)
pins: 1 NC, 2 NC, 3 NC, 4 NC, 5 PCM_SYNC, 6 PCM_DIN, 7 PCM_DOUT, 8 PCM_CLK, 9 NC, 10 NC, 11 WAKEUP_IN, 12 VBAT, 13 VBAT, 14 PS_HOLD, 15 RESERVED, 16 NC, 17 NC, 18 NC, 19 NC, 20 NC, 21 NC, 22 NC, 23 NC, 24 NC, 25 NC, 26 NC, 27 NC, 28 RESERVED, 29 RESERVED, 30 JTAG_TMG, 31 VCC_EXT2, 32 VCC_EXT1, 33 NC, 34 UIM_VCC, 35 VCOIN, 36 JTAG_TRST_N, 37 NC, 38 MIC2_P, 39 MIC2_N, 40 MIC1_P, 41 MIC1_N, 42 JTAG_TCK, 43 RESERVED, 44 GPIO, 45 W_DISABLE, 46 GPIO, 47 NC, 48 GND, 49 GND, 50 GND, 51 GPIO, 52 GND, 53 GND, 54 GND, 55 GPIO, 56 GND, 57 GND, 58 GND, 59 GND, 60 NC, 61 NC, 62 NC, 63 NC, 64 NC, 65 NC, 66 NC, 67 NC, 68 NC, 69 NC, 70 NC, 71 WAKEUP_OUT, 72 JTAG_TDO, 73 UART_DSR, 74 UART_TRS, 75 UART_DCD, 76 UART_TX, 77 UART_RING, 78 UART_RX, 79 UART_DTR, 80 UART_CTS, 81 POWER_ON/OFF, 82 NC, 83 NC, 84 NC, 85 USB_DM, 86 USB_DP, 87 JTAG_TDI, 88 UIM_RESET, 89 UIM_DATA, 90 UIM_CLK, 91 LED_STATUS, 92 NC, 93 JTAG_RTCK, 94 NC, 95 NC, 96 EAR_OUT_N, 97 EAR_OUT_P, 98 SPKR_OUT_P, 99 SPKR_OUT_N, 100 RESIN_N, 101 LED_MODE, 102 NC, 103 NC, 104 NC, 105 GPIO, 106 GND, 107 MAIN_ANT, 108 GND, 109 GPIO, 110 GND, 111 GPS_ANT, 112

## MC33290
designator U?
ISO 9141 K Line
footprint SOIC127P600-8AN (SOIC, 8-Leads, Body 4.9x3.9mm, Pitch 1.27mm, IPC Medium Density)
pins: 1 VBB, 3 GND, 4 ISO, 5 TX, 6 RX, 7 VDD, 8 CEN

## MC33660
designator U?
ISO K Line Serial Link Interface
footprint SOIC127P600-8AN (SOIC, 8-Leads, Body 4.9x3.9mm, Pitch 1.27mm, IPC Medium Density)
pins: 1 VBB, 2 NC, 3 GND, 4 ISO, 5 TX, 6 RX, 7 VDD, 8 CEN

## MC33897
designator U?, comment MC33897TEF
Single Wire CAN Transceiver
footprint SOIC127P600-14AN (SOIC, 14-Leads, Body 8.6x3.9mm, Pitch 1.27mm, IPC Medium Density)
pins: 1 GND, 2 TXD, 3 MODE0, 4 MODE1, 5 RXD, 6 NC, 7 GND, 8 GND, 9 CNTL, 10 VBATT, 11 LOAD, 12 BUS, 13 NC, 14 GND

## MFRC500
designator U?
IC卡读写IC
footprint SOIC127P1047-32N (SOIC, 32-Leads, Body 20.8x7.5mm, Pitch 1.27mm, IPC Medium Density)
pins: 1 OSCIN, 2 IRQ, 3 MFIN, 4 MFOUT, 5 TX1, 6 TVDD, 7 TX2, 8 TVSS, 9 NCS, 10 NWR, 11 NRD, 12 DVSS, 13 D0, 14 D1, 15 D2, 16 D3, 17 D4, 18 D5, 19 D6, 20 D7, 21 ALE, 22 A0, 23 A1, 24 A2, 25 DVDD, 26 AVDD, 27 AUX, 28 AVSS, 29 RX, 30 VMID, 31 RSTPD, 32 OSCOUT

## MFRC522
designator U?
RFID 集成电路
footprint QFN50P500X500-32V2N (QFN, 32-Leads, Body 5x5mm, Pitch 0.5mm, IPC Medium Density)
pins: 1 IIC "裸焊盘", 2 PVDD "裸焊盘", 3 DVDD "裸焊盘", 4 DVSS "裸焊盘", 5 PVSS "裸焊盘", 6 NRSTPD "裸焊盘", 7 MFIN "裸焊盘", 8 MFOUT "裸焊盘", 9 SVDD "裸焊盘", 10 TVSS "裸焊盘", 11 TX1 "裸焊盘", 12 TVDD "裸焊盘", 13 TX2 "裸焊盘", 14 TVSS "裸焊盘", 15 AVDD "裸焊盘", 16 VMID "裸焊盘", 17 RX "裸焊盘", 18 AVSS "裸焊盘", 19 AUX1 "裸焊盘", 20 AUX2 "裸焊盘", 21 OSCIN "裸焊盘", 22 OSCOUT "裸焊盘", 23 IRQ "裸焊盘", 24 SDA/NSS/RX "裸焊盘", 25 D1/ADR_5 "裸焊盘", 26 D2/ADR_4 "裸焊盘", 27 D3/ADR_3 "裸焊盘", 28 D4/ADR_2 "裸焊盘", 29 D5/ADR_1/SCK/DTRQ "裸焊盘", 30 D6/ADR_0/MOSI/MX "裸焊盘", 31 D7/SCL/MISO/TX "裸焊盘", 32 EA "裸焊盘"

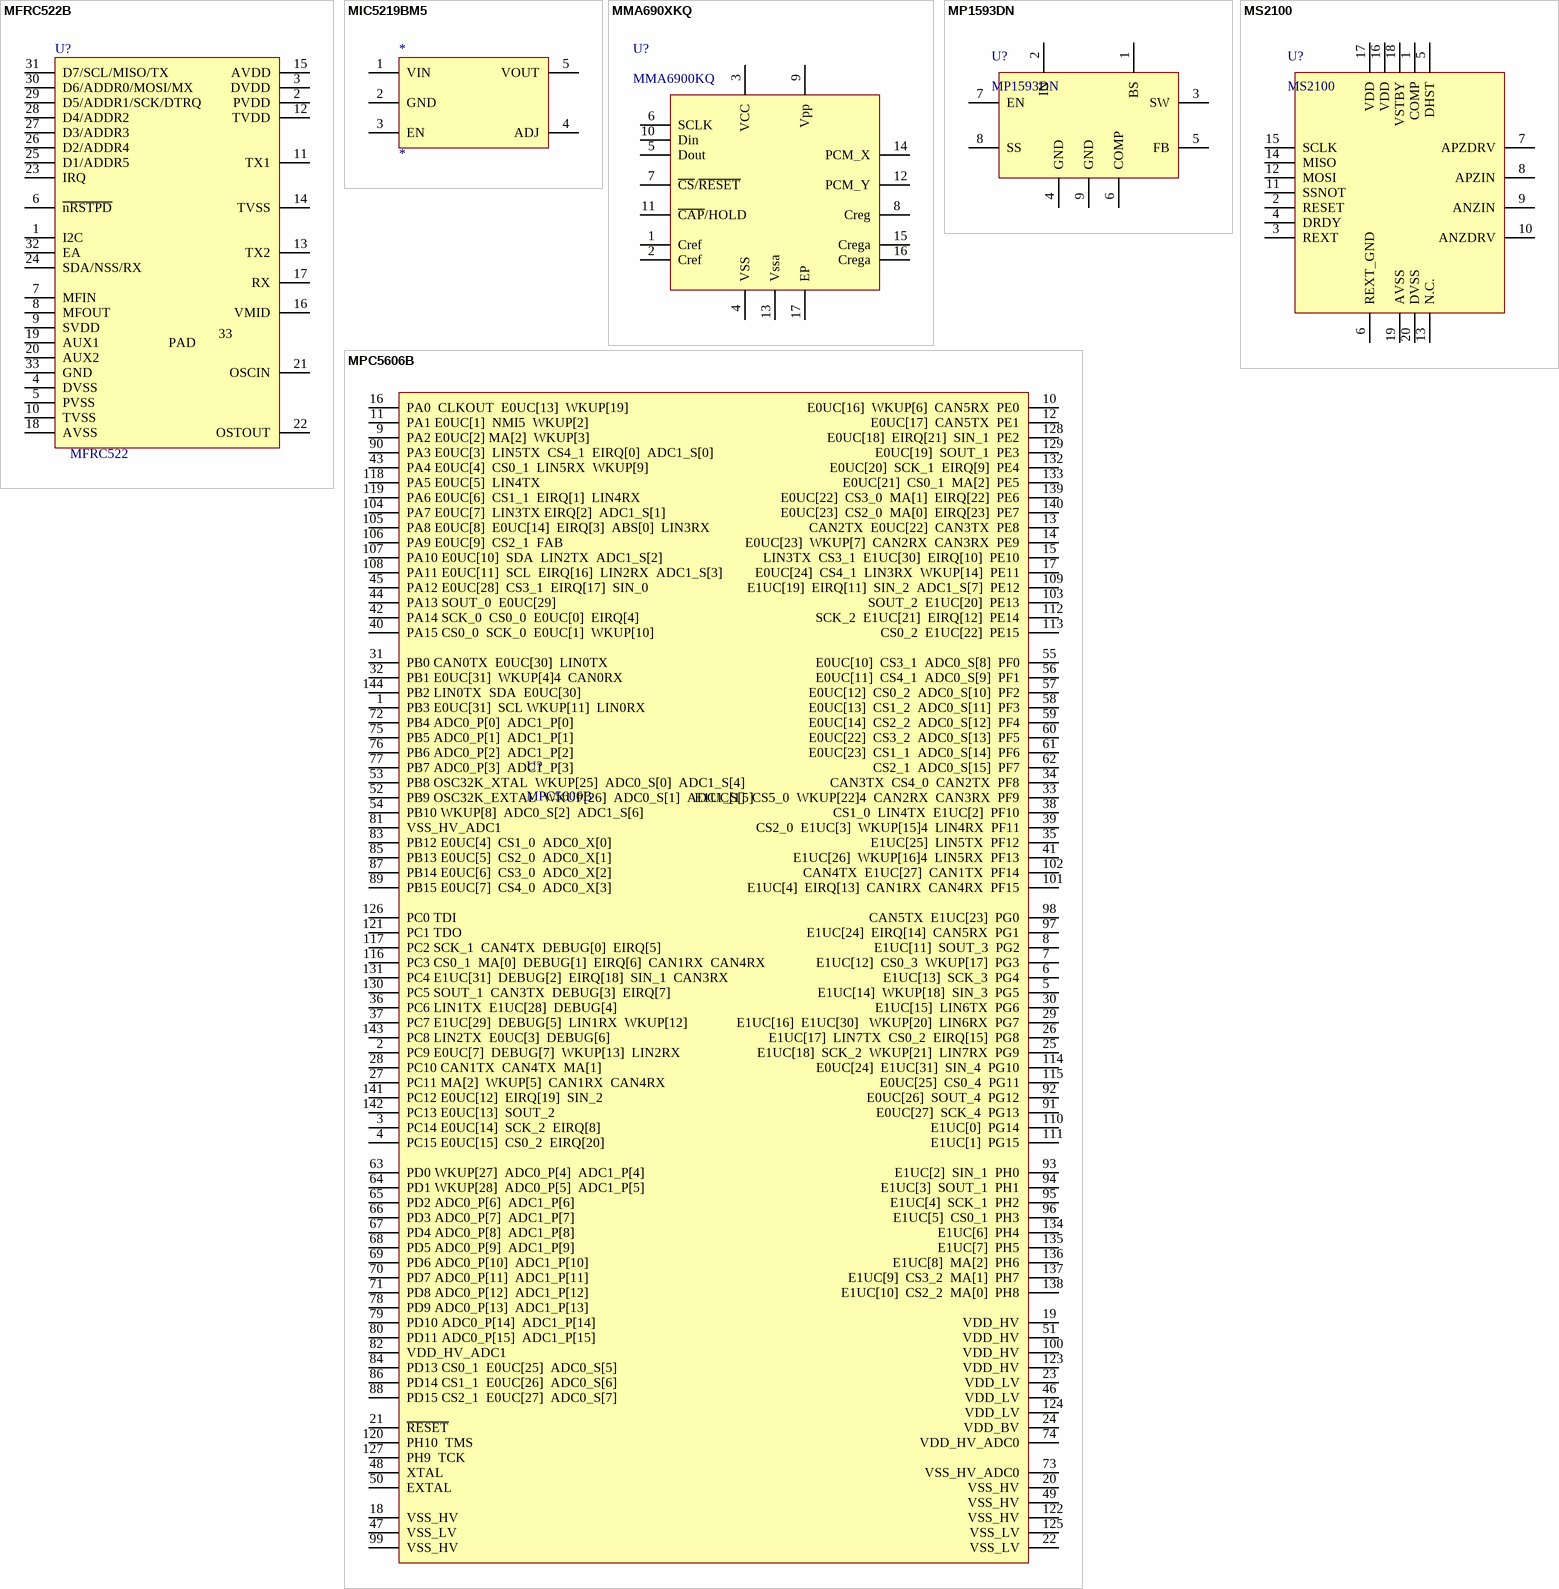
[diagram p14: symbols MFRC522B to MS2100]

## MFRC522B
designator U?, comment MFRC522
RFID IC
footprint QFN50P500X500-32V2N (QFN, 32-Leads, Body 5x5mm, Pitch 0.5mm, IPC Medium Density)
pins: 1 I2C, 2 PVDD (power), 3 DVDD, 4 DVSS, 5 PVSS, 6 ~{nRSTPD}, 7 MFIN, 8 MFOUT, 9 SVDD, 10 TVSS, 11 TX1, 12 TVDD (power), 13 TX2, 14 TVSS, 15 AVDD (power), 16 VMID, 17 RX, 18 AVSS, 19 AUX1, 20 AUX2, 21 OSCIN, 22 OSTOUT, 23 IRQ, 24 SDA/NSS/RX, 25 D1/ADDR5, 26 D2/ADDR4, 27 D3/ADDR3, 28 D4/ADDR2, 29 D5/ADDR1/SCK/DTRQ, 30 D6/ADDR0/MOSI/MX, 31 D7/SCL/MISO/TX, 32 EA, 33 PAD hidden to GND "裸焊盘", 33 GND

## MIC5219BM5
designator *
footprint SOT23-5 (SOT-23/SC-74A; 5 Leads; Body 3 x 3 mm, inc. leads (LxW max))
pins: 1 VIN (power), 2 GND (power), 3 EN (power), 4 ADJ (power), 5 VOUT (power)

## MMA690XKQ
designator U?, comment MMA6900KQ
高精度低重力惯性传感器
footprint QFN100P600X600-16VM (QFN, 16-Leads, Body 6x6 mm, Pitch 1mm, IPC Low Density)
pins: 1 Cref, 2 Cref, 3 VCC, 4 VSS, 5 Dout, 6 SCLK, 7 ~{CS}/~{RESET}, 8 Creg, 9 Vpp, 10 Din, 11 ~{CAP}/HOLD, 12 PCM_Y, 13 Vssa, 14 PCM_X, 15 Crega, 16 Crega, 17 EP

## MP1593DN
designator U?
DC-DC SWITCH 3A
footprint SOIC127P600-8DNA (8-Pin Small Outline Integrated Circuit 1.27 mm Pitch)
pins: 1 BS, 2 IN, 3 SW, 4 GND, 5 FB, 6 COMP, 7 EN, 8 SS, 9 GND

## MPC5606B
designator U?
Freescalle 32bit MCU
footprint SQFP50P2200X2200-144L (Shrink QFP, 144-Leads, Body 20x20mm, Pitch 0.5mm, IPC High Density)
pins: 1 PB3 E0UC[31]  SCL WKUP[11]  LIN0RX, 2 PC9 E0UC[7]  DEBUG[7]  WKUP[13]  LIN2RX, 3 PC14 E0UC[14]  SCK_2  EIRQ[8], 4 PC15 E0UC[15]  CS0_2  EIRQ[20], 5 E1UC[14]  WKUP[18]  SIN_3  PG5, 6 E1UC[13]  SCK_3  PG4, 7 E1UC[12]  CS0_3  WKUP[17]  PG3, 8 E1UC[11]  SOUT_3  PG2, 9 PA2 E0UC[2] MA[2]  WKUP[3], 10 E0UC[16]  WKUP[6]  CAN5RX  PE0, 11 PA1 E0UC[1]  NMI5  WKUP[2], 12 E0UC[17]  CAN5TX  PE1, 13 CAN2TX  E0UC[22]  CAN3TX  PE8, 14 E0UC[23]  WKUP[7]  CAN2RX  CAN3RX  PE9, 15 LIN3TX  CS3_1  E1UC[30]  EIRQ[10]  PE10, 16 PA0  CLKOUT  E0UC[13]  WKUP[19], 17 E0UC[24]  CS4_1  LIN3RX  WKUP[14]  PE11, 18 VSS_HV, 19 VDD_HV, 20 VSS_HV, 21 ~{RESET}, 22 VSS_LV, 23 VDD_LV, 24 VDD_BV, 25 E1UC[18]  SCK_2  WKUP[21]  LIN7RX  PG9, 26 E1UC[17]  LIN7TX  CS0_2  EIRQ[15]  PG8, 27 PC11 MA[2]  WKUP[5]  CAN1RX  CAN4RX, 28 PC10 CAN1TX  CAN4TX  MA[1], 29 E1UC[16]  E1UC[30]   WKUP[20]  LIN6RX  PG7, 30 E1UC[15]  LIN6TX  PG6, 31 PB0 CAN0TX  E0UC[30]  LIN0TX, 32 PB1 E0UC[31]  WKUP[4]4  CAN0RX, 33 E1UC[1]  CS5_0  WKUP[22]4  CAN2RX  CAN3RX  PF9, 34 CAN3TX  CS4_0  CAN2TX  PF8, 35 E1UC[25]  LIN5TX  PF12, 36 PC6 LIN1TX  E1UC[28]  DEBUG[4], 37 PC7 E1UC[29]  DEBUG[5]  LIN1RX  WKUP[12], 38 CS1_0  LIN4TX  E1UC[2]  PF10, 39 CS2_0  E1UC[3]  WKUP[15]4  LIN4RX  PF11, 40 PA15 CS0_0  SCK_0  E0UC[1]  WKUP[10], 41 E1UC[26]  WKUP[16]4  LIN5RX  PF13, 42 PA14 SCK_0  CS0_0  E0UC[0]  EIRQ[4], 43 PA4 E0UC[4]  CS0_1  LIN5RX  WKUP[9], 44 PA13 SOUT_0  E0UC[29], 45 PA12 E0UC[28]  CS3_1  EIRQ[17]  SIN_0, 46 VDD_LV, 47 VSS_LV, 48 XTAL, 49 VSS_HV, 50 EXTAL, 51 VDD_HV, 52 PB9 OSC32K_EXTAL  WKUP[26]  ADC0_S[1]  ADC1_S[5], 53 PB8 OSC32K_XTAL  WKUP[25]  ADC0_S[0]  ADC1_S[4], 54 PB10 WKUP[8]  ADC0_S[2]  ADC1_S[6], 55 E0UC[10]  CS3_1  ADC0_S[8]  PF0, 56 E0UC[11]  CS4_1  ADC0_S[9]  PF1, 57 E0UC[12]  CS0_2  ADC0_S[10]  PF2, 58 E0UC[13]  CS1_2  ADC0_S[11]  PF3, 59 E0UC[14]  CS2_2  ADC0_S[12]  PF4, 60 E0UC[22]  CS3_2  ADC0_S[13]  PF5, 61 E0UC[23]  CS1_1  ADC0_S[14]  PF6, 62 CS2_1  ADC0_S[15]  PF7, 63 PD0 WKUP[27]  ADC0_P[4]  ADC1_P[4], 64 PD1 WKUP[28]  ADC0_P[5]  ADC1_P[5], 65 PD2 ADC0_P[6]  ADC1_P[6], 66 PD3 ADC0_P[7]  ADC1_P[7], 67 PD4 ADC0_P[8]  ADC1_P[8], 68 PD5 ADC0_P[9]  ADC1_P[9], 69 PD6 ADC0_P[10]  ADC1_P[10], 70 PD7 ADC0_P[11]  ADC1_P[11], 71 PD8 ADC0_P[12]  ADC1_P[12], 72 PB4 ADC0_P[0]  ADC1_P[0], 73 VSS_HV_ADC0, 74 VDD_HV_ADC0, 75 PB5 ADC0_P[1]  ADC1_P[1], 76 PB6 ADC0_P[2]  ADC1_P[2], 77 PB7 ADC0_P[3]  ADC1_P[3], 78 PD9 ADC0_P[13]  ADC1_P[13], 79 PD10 ADC0_P[14]  ADC1_P[14], 80 PD11 ADC0_P[15]  ADC1_P[15], 81 VSS_HV_ADC1, 82 VDD_HV_ADC1, 83 PB12 E0UC[4]  CS1_0  ADC0_X[0], 84 PD13 CS0_1  E0UC[25]  ADC0_S[5], 85 PB13 E0UC[5]  CS2_0  ADC0_X[1], 86 PD14 CS1_1  E0UC[26]  ADC0_S[6], 87 PB14 E0UC[6]  CS3_0  ADC0_X[2], 88 PD15 CS2_1  E0UC[27]  ADC0_S[7], 89 PB15 E0UC[7]  CS4_0  ADC0_X[3], 90 PA3 E0UC[3]  LIN5TX  CS4_1  EIRQ[0]  ADC1_S[0], 91 E0UC[27]  SCK_4  PG13, 92 E0UC[26]  SOUT_4  PG12, 93 E1UC[2]  SIN_1  PH0, 94 E1UC[3]  SOUT_1  PH1, 95 E1UC[4]  SCK_1  PH2, 96 E1UC[5]  CS0_1  PH3, 97 E1UC[24]  EIRQ[14]  CAN5RX  PG1, 98 CAN5TX  E1UC[23]  PG0, 99 VSS_HV, 100 VDD_HV, 101 E1UC[4]  EIRQ[13]  CAN1RX  CAN4RX  PF15, 102 CAN4TX  E1UC[27]  CAN1TX  PF14, 103 SOUT_2  E1UC[20]  PE13, 104 PA7 E0UC[7]  LIN3TX EIRQ[2]  ADC1_S[1], 105 PA8 E0UC[8]  E0UC[14]  EIRQ[3]  ABS[0]  LIN3RX, 106 PA9 E0UC[9]  CS2_1  FAB, 107 PA10 E0UC[10]  SDA  LIN2TX  ADC1_S[2], 108 PA11 E0UC[11]  SCL  EIRQ[16]  LIN2RX  ADC1_S[3], 109 E1UC[19]  EIRQ[11]  SIN_2  ADC1_S[7]  PE12, 110 E1UC[0]  PG14, 111 E1UC[1]  PG15, 112 SCK_2  E1UC[21]  EIRQ[12]  PE14, 113 CS0_2  E1UC[22]  PE15, 114 E0UC[24]  E1UC[31]  SIN_4  PG10, 115 E0UC[25]  CS0_4  PG11, 116 PC3 CS0_1  MA[0]  DEBUG[1]  EIRQ[6]  CAN1RX  CAN4RX, 117 PC2 SCK_1  CAN4TX  DEBUG[0]  EIRQ[5], 118 PA5 E0UC[5]  LIN4TX, 119 PA6 E0UC[6]  CS1_1  EIRQ[1]  LIN4RX, 120 PH10  TMS, 121 PC1 TDO, 122 VSS_HV, 123 VDD_HV, 124 VDD_LV, 125 VSS_LV, 126 PC0 TDI, 127 PH9  TCK, 128 E0UC[18]  EIRQ[21]  SIN_1  PE2, 129 E0UC[19]  SOUT_1  PE3, 130 PC5 SOUT_1  CAN3TX  DEBUG[3]  EIRQ[7], 131 PC4 E1UC[31]  DEBUG[2]  EIRQ[18]  SIN_1  CAN3RX, 132 E0UC[20]  SCK_1  EIRQ[9]  PE4, 133 E0UC[21]  CS0_1  MA[2]  PE5, 134 E1UC[6]  PH4, 135 E1UC[7]  PH5, 136 E1UC[8]  MA[2]  PH6, 137 E1UC[9]  CS3_2  MA[1]  PH7, 138 E1UC[10]  CS2_2  MA[0]  PH8, 139 E0UC[22]  CS3_0  MA[1]  EIRQ[22]  PE6, 140 E0UC[23]  CS2_0  MA[0]  EIRQ[23]  PE7, 141 PC12 E0UC[12]  EIRQ[19]  SIN_2, 142 PC13 E0UC[13]  SOUT_2, 143 PC8 LIN2TX  E0UC[3]  DEBUG[6], 144 PB2 LIN0TX  SDA  E0UC[30]

## MS2100
designator U?
footprint QFP80P693X693-20
pins: 1 COMP, 2 RESET, 3 REXT, 4 DRDY, 5 DHST, 6 REXT_GND, 7 APZDRV, 8 APZIN, 9 ANZIN, 10 ANZDRV, 11 SSNOT, 12 MOSI, 13 N.C., 14 MISO, 15 SCLK, 16 VDD, 17 VDD, 18 VSTBY, 19 AVSS, 20 DVSS

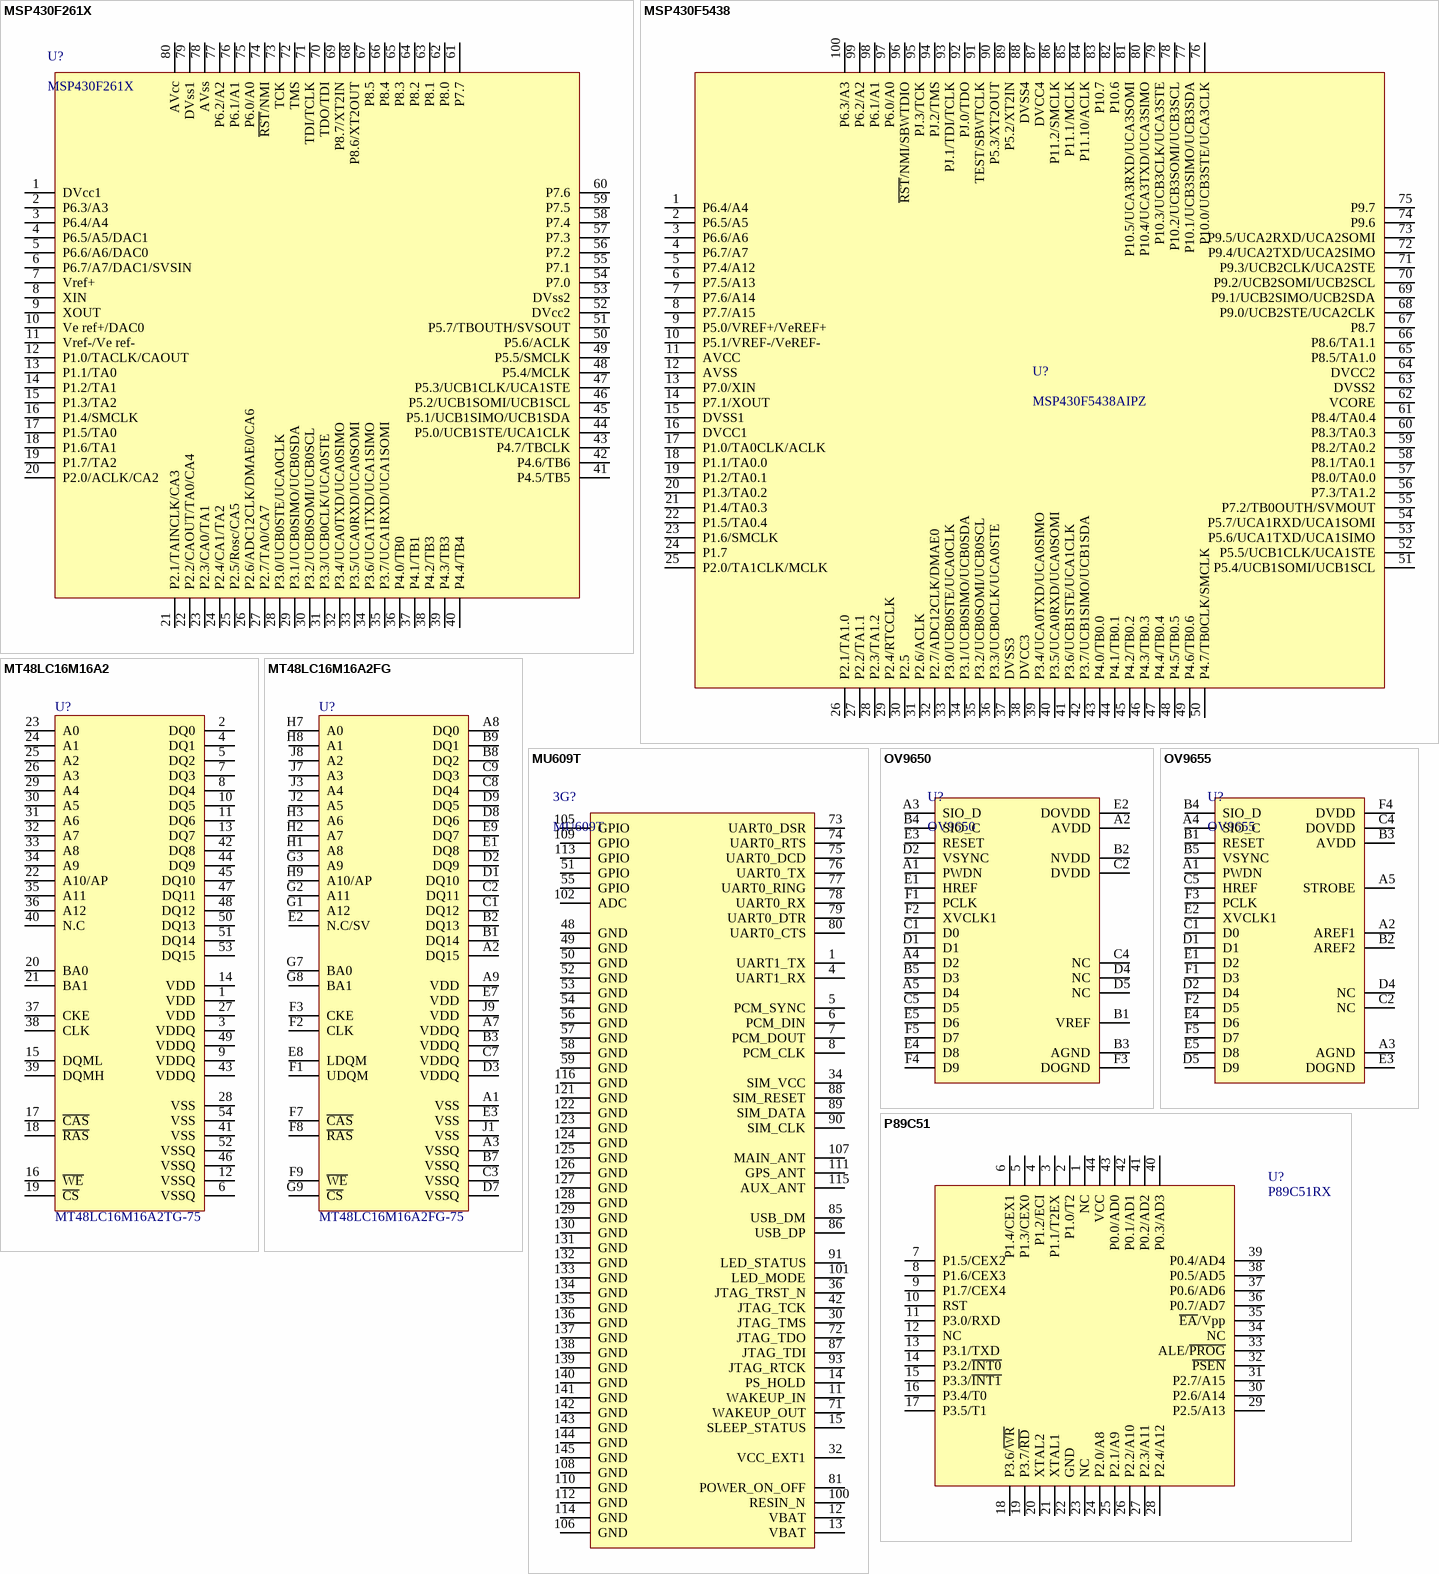
[diagram p15: symbols MSP430F261X to P89C51]

## MSP430F261X
designator U?
MSP430F261xTPNR TQFP 80pin
footprint TSQFP50P1400X1400-80M (Thin QFP, 80-Leads, Body 12x12mm, Pitch 0.5mm, IPC Low Density)
footprint SQFP50P1400X1400-80M (Shrink QFP, 80-Leads, Body 12x12mm, Pitch 0.5mm, IPC Low Density)
pins: 1 DVcc1, 2 P6.3/A3, 3 P6.4/A4, 4 P6.5/A5/DAC1, 5 P6.6/A6/DAC0, 6 P6.7/A7/DAC1/SVSIN, 7 Vref+, 8 XIN, 9 XOUT, 10 Ve ref+/DAC0, 11 Vref-/Ve ref-, 12 P1.0/TACLK/CAOUT, 13 P1.1/TA0, 14 P1.2/TA1, 15 P1.3/TA2, 16 P1.4/SMCLK, 17 P1.5/TA0, 18 P1.6/TA1, 19 P1.7/TA2, 20 P2.0/ACLK/CA2, 21 P2.1/TAINCLK/CA3, 22 P2.2/CAOUT/TA0/CA4, 23 P2.3/CA0/TA1, 24 P2.4/CA1/TA2, 25 P2.5/Rosc/CA5, 26 P2.6/ADC12CLK/DMAE0/CA6, 27 P2.7/TA0/CA7, 28 P3.0/UCB0STE/UCA0CLK, 29 P3.1/UCB0SIMO/UCB0SDA, 30 P3.2/UCB0SOMI/UCB0SCL, 31 P3.3/UCB0CLK/UCA0STE, 32 P3.4/UCA0TXD/UCA0SIMO, 33 P3.5/UCA0RXD/UCA0SOMI, 34 P3.6/UCA1TXD/UCA1SIMO, 35 P3.7/UCA1RXD/UCA1SOMI, 36 P4.0/TB0, 37 P4.1/TB1, 38 P4.2/TB3, 39 P4.3/TB3, 40 P4.4/TB4, 41 P4.5/TB5, 42 P4.6/TB6, 43 P4.7/TBCLK, 44 P5.0/UCB1STE/UCA1CLK, 45 P5.1/UCB1SIMO/UCB1SDA, 46 P5.2/UCB1SOMI/UCB1SCL, 47 P5.3/UCB1CLK/UCA1STE, 48 P5.4/MCLK, 49 P5.5/SMCLK, 50 P5.6/ACLK, 51 P5.7/TBOUTH/SVSOUT, 52 DVcc2, 53 DVss2, 54 P7.0, 55 P7.1, 56 P7.2, 57 P7.3, 58 P7.4, 59 P7.5, 60 P7.6, 61 P7.7, 62 P8.0, 63 P8.1, 64 P8.2, 65 P8.3, 66 P8.4, 67 P8.5, 68 P8.6/XT2OUT, 69 P8.7/XT2IN, 70 TDO/TDI, 71 TDI/TCLK, 72 TMS, 73 TCK, 74 ~{RST}/NMI, 75 P6.0/A0, 76 P6.1/A1, 77 P6.2/A2, 78 AVss, 79 DVss1, 80 AVcc

## MSP430F5438
designator U?, comment MSP430F5438AIPZ
MSP430单片机
footprint SQFP50P1600X1600-100L (Shrink QFP, 100-Leads, Body 14x14mm, Pitch 0.5mm, IPC High Density)
footprint TSQFP50P1600X1600-100L (Thin QFP, 100-Leads, Body 14x14mm, Pitch 0.5mm, IPC High Density)
pins: 1 P6.4/A4, 2 P6.5/A5, 3 P6.6/A6, 4 P6.7/A7, 5 P7.4/A12, 6 P7.5/A13, 7 P7.6/A14, 8 P7.7/A15, 9 P5.0/VREF+/VeREF+, 10 P5.1/VREF-/VeREF-, 11 AVCC, 12 AVSS, 13 P7.0/XIN, 14 P7.1/XOUT, 15 DVSS1, 16 DVCC1, 17 P1.0/TA0CLK/ACLK, 18 P1.1/TA0.0, 19 P1.2/TA0.1, 20 P1.3/TA0.2, 21 P1.4/TA0.3, 22 P1.5/TA0.4, 23 P1.6/SMCLK, 24 P1.7, 25 P2.0/TA1CLK/MCLK, 26 P2.1/TA1.0, 27 P2.2/TA1.1, 28 P2.3/TA1.2, 29 P2.4/RTCCLK, 30 P2.5, 31 P2.6/ACLK, 32 P2.7/ADC12CLK/DMAE0, 33 P3.0/UCB0STE/UCA0CLK, 34 P3.1/UCB0SIMO/UCB0SDA, 35 P3.2/UCB0SOMI/UCB0SCL, 36 P3.3/UCB0CLK/UCA0STE, 37 DVSS3, 38 DVCC3, 39 P3.4/UCA0TXD/UCA0SIMO, 40 P3.5/UCA0RXD/UCA0SOMI, 41 P3.6/UCB1STE/UCA1CLK, 42 P3.7/UCB1SIMO/UCB1SDA, 43 P4.0/TB0.0, 44 P4.1/TB0.1, 45 P4.2/TB0.2, 46 P4.3/TB0.3, 47 P4.4/TB0.4, 48 P4.5/TB0.5, 49 P4.6/TB0.6, 50 P4.7/TB0CLK/SMCLK, 51 P5.4/UCB1SOMI/UCB1SCL, 52 P5.5/UCB1CLK/UCA1STE, 53 P5.6/UCA1TXD/UCA1SIMO, 54 P5.7/UCA1RXD/UCA1SOMI, 55 P7.2/TB0OUTH/SVMOUT, 56 P7.3/TA1.2, 57 P8.0/TA0.0, 58 P8.1/TA0.1, 59 P8.2/TA0.2, 60 P8.3/TA0.3, 61 P8.4/TA0.4, 62 VCORE, 63 DVSS2, 64 DVCC2, 65 P8.5/TA1.0, 66 P8.6/TA1.1, 67 P8.7, 68 P9.0/UCB2STE/UCA2CLK, 69 P9.1/UCB2SIMO/UCB2SDA, 70 P9.2/UCB2SOMI/UCB2SCL, 71 P9.3/UCB2CLK/UCA2STE, 72 P9.4/UCA2TXD/UCA2SIMO, 73 P9.5/UCA2RXD/UCA2SOMI, 74 P9.6, 75 P9.7, 76 P10.0/UCB3STE/UCA3CLK, 77 P10.1/UCB3SIMO/UCB3SDA, 78 P10.2/UCB3SOMI/UCB3SCL, 79 P10.3/UCB3CLK/UCA3STE, 80 P10.4/UCA3TXD/UCA3SIMO, 81 P10.5/UCA3RXD/UCA3SOMI, 82 P10.6, 83 P10.7, 84 P11.10/ACLK, 85 P11.1/MCLK, 86 P11.2/SMCLK, 87 DVCC4, 88 DVSS4, 89 P5.2/XT2IN, 90 P5.3/XT2OUT, 91 TEST/SBWTCLK, 92 PJ.0/TDO, 93 PJ.1/TDI/TCLK, 94 PJ.2/TMS, 95 PJ.3/TCK, 96 ~{RST}/NMI/SBWTDIO, 97 P6.0/A0, 98 P6.1/A1, 99 P6.2/A2, 100 P6.3/A3

## MT48LC16M16A2
designator U?, comment MT48LC16M16A2TG-75
256Mbits SDRAM
footprint SOP80P1176-54AM (SOP, 54-Leads, Body 22.5x10.16mm, Pitch 0.8mm, IPC Low Density)
pins: 1 VDD, 2 DQ0, 3 VDDQ, 4 DQ1, 5 DQ2, 6 VSSQ, 7 DQ3, 8 DQ4, 9 VDDQ, 10 DQ5, 11 DQ6, 12 VSSQ, 13 DQ7, 14 VDD, 15 DQML, 16 ~{WE}, 17 ~{CAS}, 18 ~{RAS}, 19 ~{CS}, 20 BA0, 21 BA1, 22 A10/AP, 23 A0, 24 A1, 25 A2, 26 A3, 27 VDD, 28 VSS, 29 A4, 30 A5, 31 A6, 32 A7, 33 A8, 34 A9, 35 A11, 36 A12, 37 CKE, 38 CLK, 39 DQMH, 40 N.C, 41 VSS, 42 DQ8, 43 VDDQ, 44 DQ9, 45 DQ10, 46 VSSQ, 47 DQ11, 48 DQ12, 49 VDDQ, 50 DQ13, 51 DQ14, 52 VSSQ, 53 DQ15, 54 VSS

## MT48LC16M16A2FG
designator U?, comment MT48LC16M16A2FG-75
256Mbits SDRAM
footprint BGA80P9X9-D3 (BGA, 81-Leads, Body 8x8mm, Pitch 0.8mm)
pins: A1 VSS, A2 DQ15, A3 VSSQ, A7 VDDQ, A8 DQ0, A9 VDD, B1 DQ14, B2 DQ13, B3 VDDQ, B7 VSSQ, B8 DQ2, B9 DQ1, C1 DQ12, C2 DQ11, C3 VSSQ, C7 VDDQ, C8 DQ4, C9 DQ3, D1 DQ10, D2 DQ9, D3 VDDQ, D7 VSSQ, D8 DQ6, D9 DQ5, E1 DQ8, E2 N.C/SV, E3 VSS, E7 VDD, E8 LDQM, E9 DQ7, F1 UDQM, F2 CLK, F3 CKE, F7 ~{CAS}, F8 ~{RAS}, F9 ~{WE}, G1 A12, G2 A11, G3 A9, G7 BA0, G8 BA1, G9 ~{CS}, H1 A8, H2 A7, H3 A6, H7 A0, H8 A1, H9 A10/AP, J1 VSS, J2 A5, J3 A4, J7 A3, J8 A2, J9 VDD